# Altium integrated library Actel ProASIC PLUS.IntLib: 242 symbols (part 7 of 36)
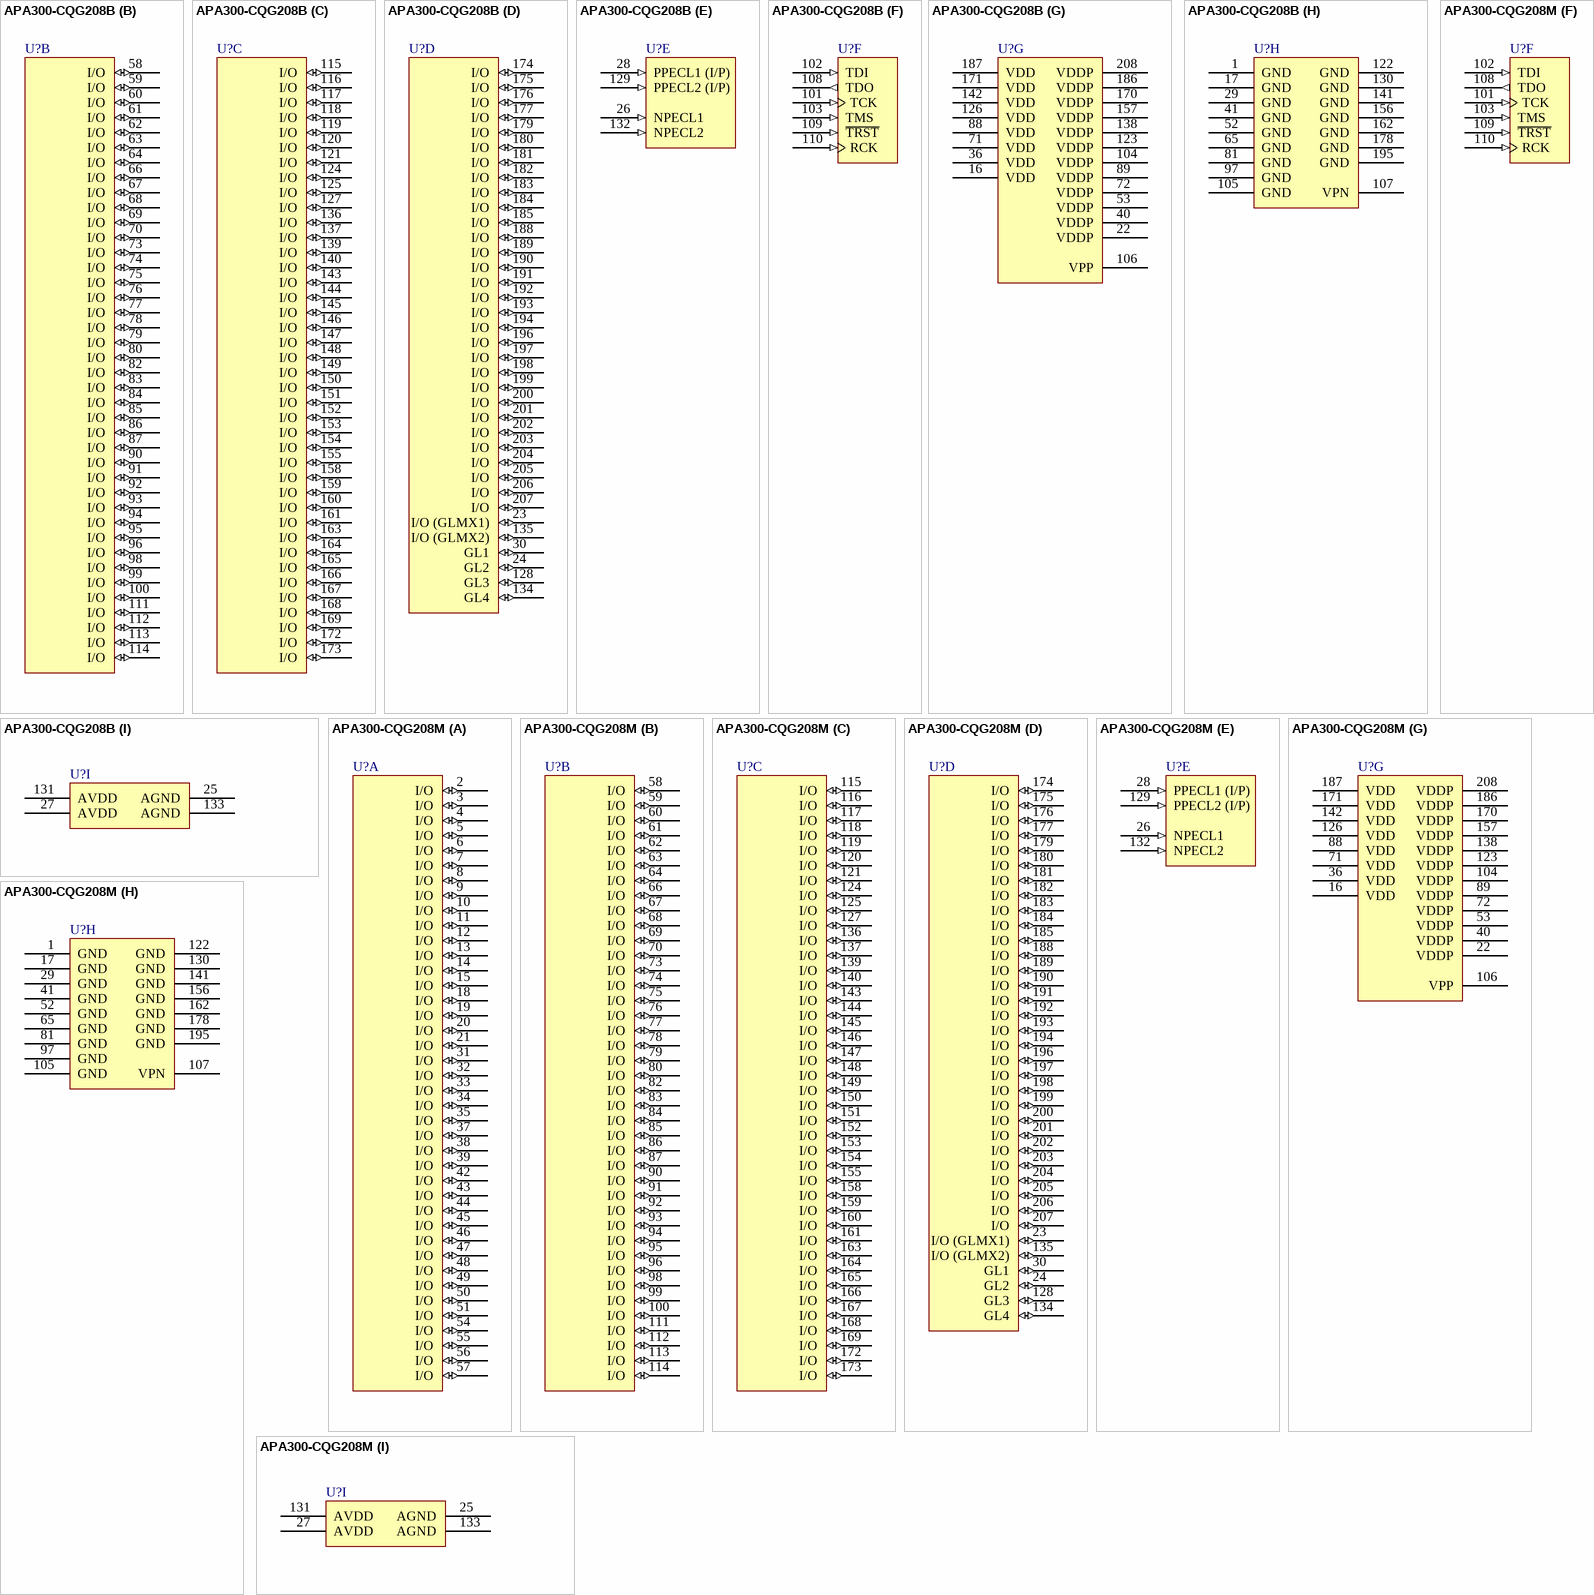
[diagram p203: symbols APA300-CQG208B to APA300-CQG208M]

## APA300-CQG208M
designator U?
ProASICPlus APA300 Flash FPGA, 158 User IOs, 208-Pin CQFP, Speed Grade Standard, Military Grade, Pb-Free; Published: 16-Dec-2005; LatestRevisionDate: 26-Feb-2010; LatestRevisionNote: Updated to datasheet version 5.9 Jan-2010.; DatasheetVersion: v5.9, Jan-2010; PackageVersion: ver11.2, Nov-2009; PackageReference: CQ208; Publisher: Altium Limited; PackageDescription: 208-Pin Ceramic Quad Flat Pack (CQFP); ComponentLink1Description: ProASIC PLUS Datasheet; ComponentLink1URL: http://www.actel.com/documents/ProASICPLUS_DS.pdf; ComponentLink2Description: Package Mechanical Drawings; ComponentLink2URL: http://www.actel.com/documents/PckgMechDrwngs.pdf; ComponentLink3Description: ProASIC PLUS Documents; ComponentLink3URL: http://www.actel.com/products/proasicplus/docs.aspx; ComponentLink4Description: Actel.com Home; ComponentLink4URL: http://www.actel.com/
footprint CQ208_N (CQFP, 208-Leads, Body 29x29mm; Pitch 0.5mm, Gullwing Leadform, IPC Medium Density)
footprint CQ208_L (CQFP, 208-Leads, Body 29x29mm; Pitch 0.5mm, Gullwing Leadform, IPC High Density)
footprint CQ208_M (CQFP, 208-Leads, Body 29x29mm; Pitch 0.5mm, Gullwing Leadform, IPC Low Density)
part A pins: 2 I/O (io), 3 I/O (io), 4 I/O (io), 5 I/O (io), 6 I/O (io), 7 I/O (io), 8 I/O (io), 9 I/O (io), 10 I/O (io), 11 I/O (io), 12 I/O (io), 13 I/O (io), 14 I/O (io), 15 I/O (io), 18 I/O (io), 19 I/O (io), 20 I/O (io), 21 I/O (io), 31 I/O (io), 32 I/O (io), 33 I/O (io), 34 I/O (io), 35 I/O (io), 37 I/O (io), 38 I/O (io), 39 I/O (io), 42 I/O (io), 43 I/O (io), 44 I/O (io), 45 I/O (io), 46 I/O (io), 47 I/O (io), 48 I/O (io), 49 I/O (io), 50 I/O (io), 51 I/O (io), 54 I/O (io), 55 I/O (io), 56 I/O (io), 57 I/O (io)
part B pins: 58 I/O (io), 59 I/O (io), 60 I/O (io), 61 I/O (io), 62 I/O (io), 63 I/O (io), 64 I/O (io), 66 I/O (io), 67 I/O (io), 68 I/O (io), 69 I/O (io), 70 I/O (io), 73 I/O (io), 74 I/O (io), 75 I/O (io), 76 I/O (io), 77 I/O (io), 78 I/O (io), 79 I/O (io), 80 I/O (io), 82 I/O (io), 83 I/O (io), 84 I/O (io), 85 I/O (io), 86 I/O (io), 87 I/O (io), 90 I/O (io), 91 I/O (io), 92 I/O (io), 93 I/O (io), 94 I/O (io), 95 I/O (io), 96 I/O (io), 98 I/O (io), 99 I/O (io), 100 I/O (io), 111 I/O (io), 112 I/O (io), 113 I/O (io), 114 I/O (io)
part C pins: 115 I/O (io), 116 I/O (io), 117 I/O (io), 118 I/O (io), 119 I/O (io), 120 I/O (io), 121 I/O (io), 124 I/O (io), 125 I/O (io), 127 I/O (io), 136 I/O (io), 137 I/O (io), 139 I/O (io), 140 I/O (io), 143 I/O (io), 144 I/O (io), 145 I/O (io), 146 I/O (io), 147 I/O (io), 148 I/O (io), 149 I/O (io), 150 I/O (io), 151 I/O (io), 152 I/O (io), 153 I/O (io), 154 I/O (io), 155 I/O (io), 158 I/O (io), 159 I/O (io), 160 I/O (io), 161 I/O (io), 163 I/O (io), 164 I/O (io), 165 I/O (io), 166 I/O (io), 167 I/O (io), 168 I/O (io), 169 I/O (io), 172 I/O (io), 173 I/O (io)
part D pins: 23 I/O (GLMX1) (io), 24 GL2 (io), 30 GL1 (io), 128 GL3 (io), 134 GL4 (io), 135 I/O (GLMX2) (io), 174 I/O (io), 175 I/O (io), 176 I/O (io), 177 I/O (io), 179 I/O (io), 180 I/O (io), 181 I/O (io), 182 I/O (io), 183 I/O (io), 184 I/O (io), 185 I/O (io), 188 I/O (io), 189 I/O (io), 190 I/O (io), 191 I/O (io), 192 I/O (io), 193 I/O (io), 194 I/O (io), 196 I/O (io), 197 I/O (io), 198 I/O (io), 199 I/O (io), 200 I/O (io), 201 I/O (io), 202 I/O (io), 203 I/O (io), 204 I/O (io), 205 I/O (io), 206 I/O (io), 207 I/O (io)
part E pins: 26 NPECL1 (in), 28 PPECL1 (I/P) (in), 129 PPECL2 (I/P) (in), 132 NPECL2 (in)
part F pins: 101 TCK (in), 102 TDI (in), 103 TMS (in), 108 TDO (out), 109 ~{TRST} (in), 110 RCK (in)
part G pins: 16 VDD (power), 22 VDDP (power), 36 VDD (power), 40 VDDP (power), 53 VDDP (power), 71 VDD (power), 72 VDDP (power), 88 VDD (power), 89 VDDP (power), 104 VDDP (power), 106 VPP (power), 123 VDDP (power), 126 VDD (power), 138 VDDP (power), 142 VDD (power), 157 VDDP (power), 170 VDDP (power), 171 VDD (power), 186 VDDP (power), 187 VDD (power), 208 VDDP (power)
part H pins: 1 GND (power), 17 GND (power), 29 GND (power), 41 GND (power), 52 GND (power), 65 GND (power), 81 GND (power), 97 GND (power), 105 GND (power), 107 VPN (power), 122 GND (power), 130 GND (power), 141 GND (power), 156 GND (power), 162 GND (power), 178 GND (power), 195 GND (power)
part I pins: 25 AGND (power), 27 AVDD (power), 131 AVDD (power), 133 AGND (power)

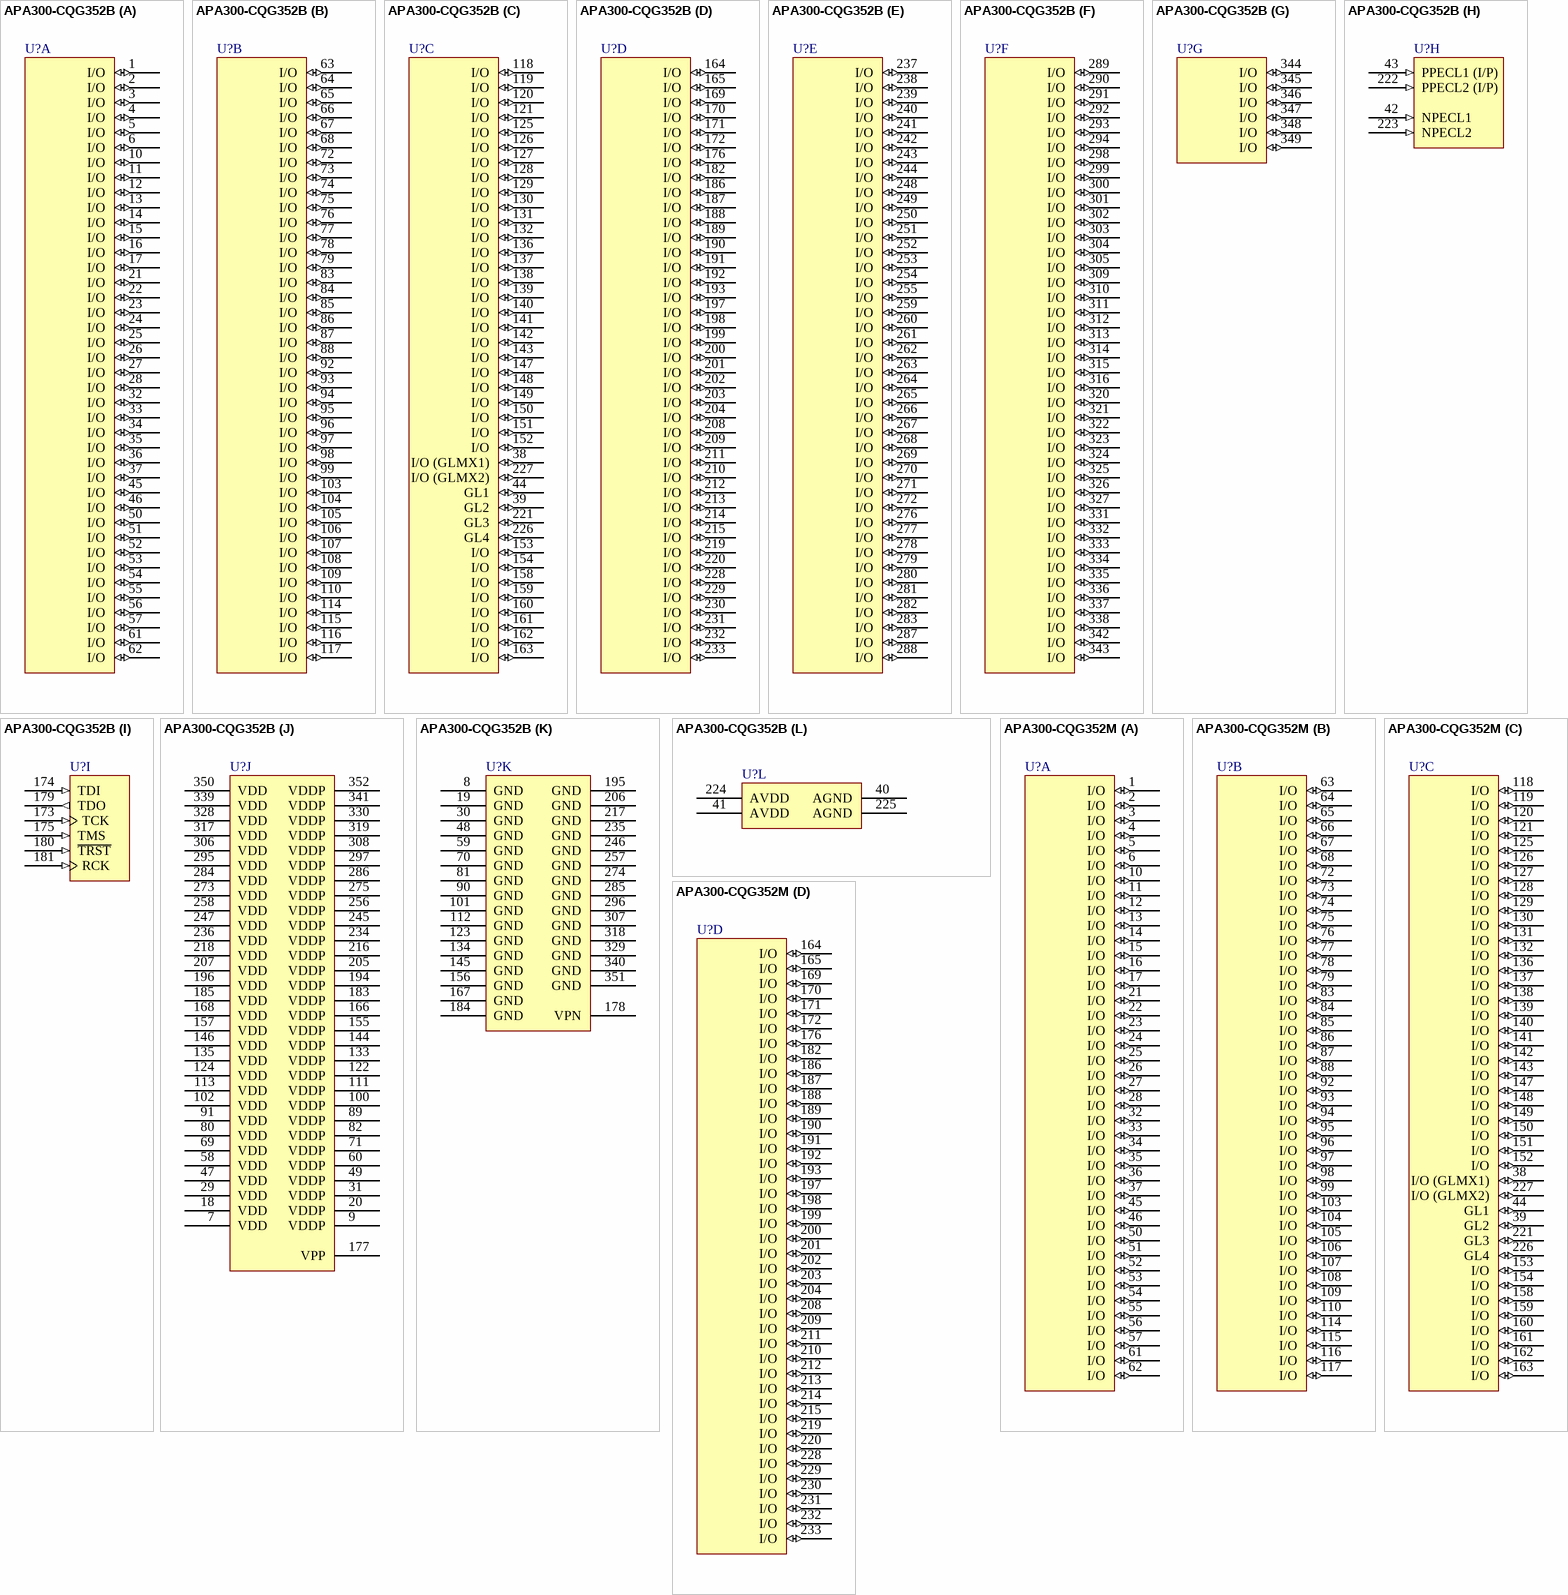
[diagram p40: symbols APA300-CQG352B to APA300-CQG352M]

## APA300-CQG352B
designator U?
ProASICPlus APA300 Flash FPGA, 248 User IOs, 352-Pin CQFP, Speed Grade Standard, Mil-Std 883 Class B, Pb-Free; Published: 2-Mar-2006; LatestRevisionDate: 26-Feb-2010; LatestRevisionNote: Updated to datasheet version 5.9 Jan-2010.; DatasheetVersion: v5.9, Jan-2010; PackageVersion: ver11.2, Nov-2009; PackageReference: CQ352; Publisher: Altium Limited; PackageDescription: 352-Pin Ceramic Quad Flat Pack (CQFP), Cavity Up without Heat Sink; Code_JEDEC: MO-134-AE; ComponentLink1Description: ProASIC PLUS Datasheet; ComponentLink1URL: http://www.actel.com/documents/ProASICPLUS_DS.pdf; ComponentLink2Description: Package Mechanical Drawings; ComponentLink2URL: http://www.actel.com/documents/PckgMechDrwngs.pdf; ComponentLink3Description: ProASIC PLUS Documents; ComponentLink3URL: http://www.actel.com/products/proasicplus/docs.aspx; ComponentLink4Description: Actel.com Home; ComponentLink4URL: http://www.actel.com/
footprint CQ352_N (CQFP, 352-Leads, Body 48x48mm; Pitch 0.5mm, Gullwing Leadform, IPC Medium Density)
footprint CQ352_L (CQFP, 352-Leads, Body 48x48mm; Pitch 0.5mm, Gullwing Leadform, IPC High Density)
footprint CQ352_M (CQFP, 352-Leads, Body 48x48mm; Pitch 0.5mm, Gullwing Leadform, IPC Low Density)
part A pins: 1 I/O (io), 2 I/O (io), 3 I/O (io), 4 I/O (io), 5 I/O (io), 6 I/O (io), 10 I/O (io), 11 I/O (io), 12 I/O (io), 13 I/O (io), 14 I/O (io), 15 I/O (io), 16 I/O (io), 17 I/O (io), 21 I/O (io), 22 I/O (io), 23 I/O (io), 24 I/O (io), 25 I/O (io), 26 I/O (io), 27 I/O (io), 28 I/O (io), 32 I/O (io), 33 I/O (io), 34 I/O (io), 35 I/O (io), 36 I/O (io), 37 I/O (io), 45 I/O (io), 46 I/O (io), 50 I/O (io), 51 I/O (io), 52 I/O (io), 53 I/O (io), 54 I/O (io), 55 I/O (io), 56 I/O (io), 57 I/O (io), 61 I/O (io), 62 I/O (io)
part B pins: 63 I/O (io), 64 I/O (io), 65 I/O (io), 66 I/O (io), 67 I/O (io), 68 I/O (io), 72 I/O (io), 73 I/O (io), 74 I/O (io), 75 I/O (io), 76 I/O (io), 77 I/O (io), 78 I/O (io), 79 I/O (io), 83 I/O (io), 84 I/O (io), 85 I/O (io), 86 I/O (io), 87 I/O (io), 88 I/O (io), 92 I/O (io), 93 I/O (io), 94 I/O (io), 95 I/O (io), 96 I/O (io), 97 I/O (io), 98 I/O (io), 99 I/O (io), 103 I/O (io), 104 I/O (io), 105 I/O (io), 106 I/O (io), 107 I/O (io), 108 I/O (io), 109 I/O (io), 110 I/O (io), 114 I/O (io), 115 I/O (io), 116 I/O (io), 117 I/O (io)
part C pins: 38 I/O (GLMX1) (io), 39 GL2 (io), 44 GL1 (io), 118 I/O (io), 119 I/O (io), 120 I/O (io), 121 I/O (io), 125 I/O (io), 126 I/O (io), 127 I/O (io), 128 I/O (io), 129 I/O (io), 130 I/O (io), 131 I/O (io), 132 I/O (io), 136 I/O (io), 137 I/O (io), 138 I/O (io), 139 I/O (io), 140 I/O (io), 141 I/O (io), 142 I/O (io), 143 I/O (io), 147 I/O (io), 148 I/O (io), 149 I/O (io), 150 I/O (io), 151 I/O (io), 152 I/O (io), 153 I/O (io), 154 I/O (io), 158 I/O (io), 159 I/O (io), 160 I/O (io), 161 I/O (io), 162 I/O (io), 163 I/O (io), 221 GL3 (io), 226 GL4 (io), 227 I/O (GLMX2) (io)
part D pins: 164 I/O (io), 165 I/O (io), 169 I/O (io), 170 I/O (io), 171 I/O (io), 172 I/O (io), 176 I/O (io), 182 I/O (io), 186 I/O (io), 187 I/O (io), 188 I/O (io), 189 I/O (io), 190 I/O (io), 191 I/O (io), 192 I/O (io), 193 I/O (io), 197 I/O (io), 198 I/O (io), 199 I/O (io), 200 I/O (io), 201 I/O (io), 202 I/O (io), 203 I/O (io), 204 I/O (io), 208 I/O (io), 209 I/O (io), 210 I/O (io), 211 I/O (io), 212 I/O (io), 213 I/O (io), 214 I/O (io), 215 I/O (io), 219 I/O (io), 220 I/O (io), 228 I/O (io), 229 I/O (io), 230 I/O (io), 231 I/O (io), 232 I/O (io), 233 I/O (io)
part E pins: 237 I/O (io), 238 I/O (io), 239 I/O (io), 240 I/O (io), 241 I/O (io), 242 I/O (io), 243 I/O (io), 244 I/O (io), 248 I/O (io), 249 I/O (io), 250 I/O (io), 251 I/O (io), 252 I/O (io), 253 I/O (io), 254 I/O (io), 255 I/O (io), 259 I/O (io), 260 I/O (io), 261 I/O (io), 262 I/O (io), 263 I/O (io), 264 I/O (io), 265 I/O (io), 266 I/O (io), 267 I/O (io), 268 I/O (io), 269 I/O (io), 270 I/O (io), 271 I/O (io), 272 I/O (io), 276 I/O (io), 277 I/O (io), 278 I/O (io), 279 I/O (io), 280 I/O (io), 281 I/O (io), 282 I/O (io), 283 I/O (io), 287 I/O (io), 288 I/O (io)
part F pins: 289 I/O (io), 290 I/O (io), 291 I/O (io), 292 I/O (io), 293 I/O (io), 294 I/O (io), 298 I/O (io), 299 I/O (io), 300 I/O (io), 301 I/O (io), 302 I/O (io), 303 I/O (io), 304 I/O (io), 305 I/O (io), 309 I/O (io), 310 I/O (io), 311 I/O (io), 312 I/O (io), 313 I/O (io), 314 I/O (io), 315 I/O (io), 316 I/O (io), 320 I/O (io), 321 I/O (io), 322 I/O (io), 323 I/O (io), 324 I/O (io), 325 I/O (io), 326 I/O (io), 327 I/O (io), 331 I/O (io), 332 I/O (io), 333 I/O (io), 334 I/O (io), 335 I/O (io), 336 I/O (io), 337 I/O (io), 338 I/O (io), 342 I/O (io), 343 I/O (io)
part G pins: 344 I/O (io), 345 I/O (io), 346 I/O (io), 347 I/O (io), 348 I/O (io), 349 I/O (io)
part H pins: 42 NPECL1 (in), 43 PPECL1 (I/P) (in), 222 PPECL2 (I/P) (in), 223 NPECL2 (in)
part I pins: 173 TCK (in), 174 TDI (in), 175 TMS (in), 179 TDO (out), 180 ~{TRST} (in), 181 RCK (in)
part J pins: 7 VDD (power), 9 VDDP (power), 18 VDD (power), 20 VDDP (power), 29 VDD (power), 31 VDDP (power), 47 VDD (power), 49 VDDP (power), 58 VDD (power), 60 VDDP (power), 69 VDD (power), 71 VDDP (power), 80 VDD (power), 82 VDDP (power), 89 VDDP (power), 91 VDD (power), 100 VDDP (power), 102 VDD (power), 111 VDDP (power), 113 VDD (power), 122 VDDP (power), 124 VDD (power), 133 VDDP (power), 135 VDD (power), 144 VDDP (power), 146 VDD (power), 155 VDDP (power), 157 VDD (power), 166 VDDP (power), 168 VDD (power), 177 VPP (power), 183 VDDP (power), 185 VDD (power), 194 VDDP (power), 196 VDD (power), 205 VDDP (power), 207 VDD (power), 216 VDDP (power), 218 VDD (power), 234 VDDP (power), 236 VDD (power), 245 VDDP (power), 247 VDD (power), 256 VDDP (power), 258 VDD (power), 273 VDD (power), 275 VDDP (power), 284 VDD (power), 286 VDDP (power), 295 VDD (power), 297 VDDP (power), 306 VDD (power), 308 VDDP (power), 317 VDD (power), 319 VDDP (power), 328 VDD (power), 330 VDDP (power), 339 VDD (power), 341 VDDP (power), 350 VDD (power), 352 VDDP (power)
part K pins: 8 GND (power), 19 GND (power), 30 GND (power), 48 GND (power), 59 GND (power), 70 GND (power), 81 GND (power), 90 GND (power), 101 GND (power), 112 GND (power), 123 GND (power), 134 GND (power), 145 GND (power), 156 GND (power), 167 GND (power), 178 VPN (power), 184 GND (power), 195 GND (power), 206 GND (power), 217 GND (power), 235 GND (power), 246 GND (power), 257 GND (power), 274 GND (power), 285 GND (power), 296 GND (power), 307 GND (power), 318 GND (power), 329 GND (power), 340 GND (power), 351 GND (power)
part L pins: 40 AGND (power), 41 AVDD (power), 224 AVDD (power), 225 AGND (power)

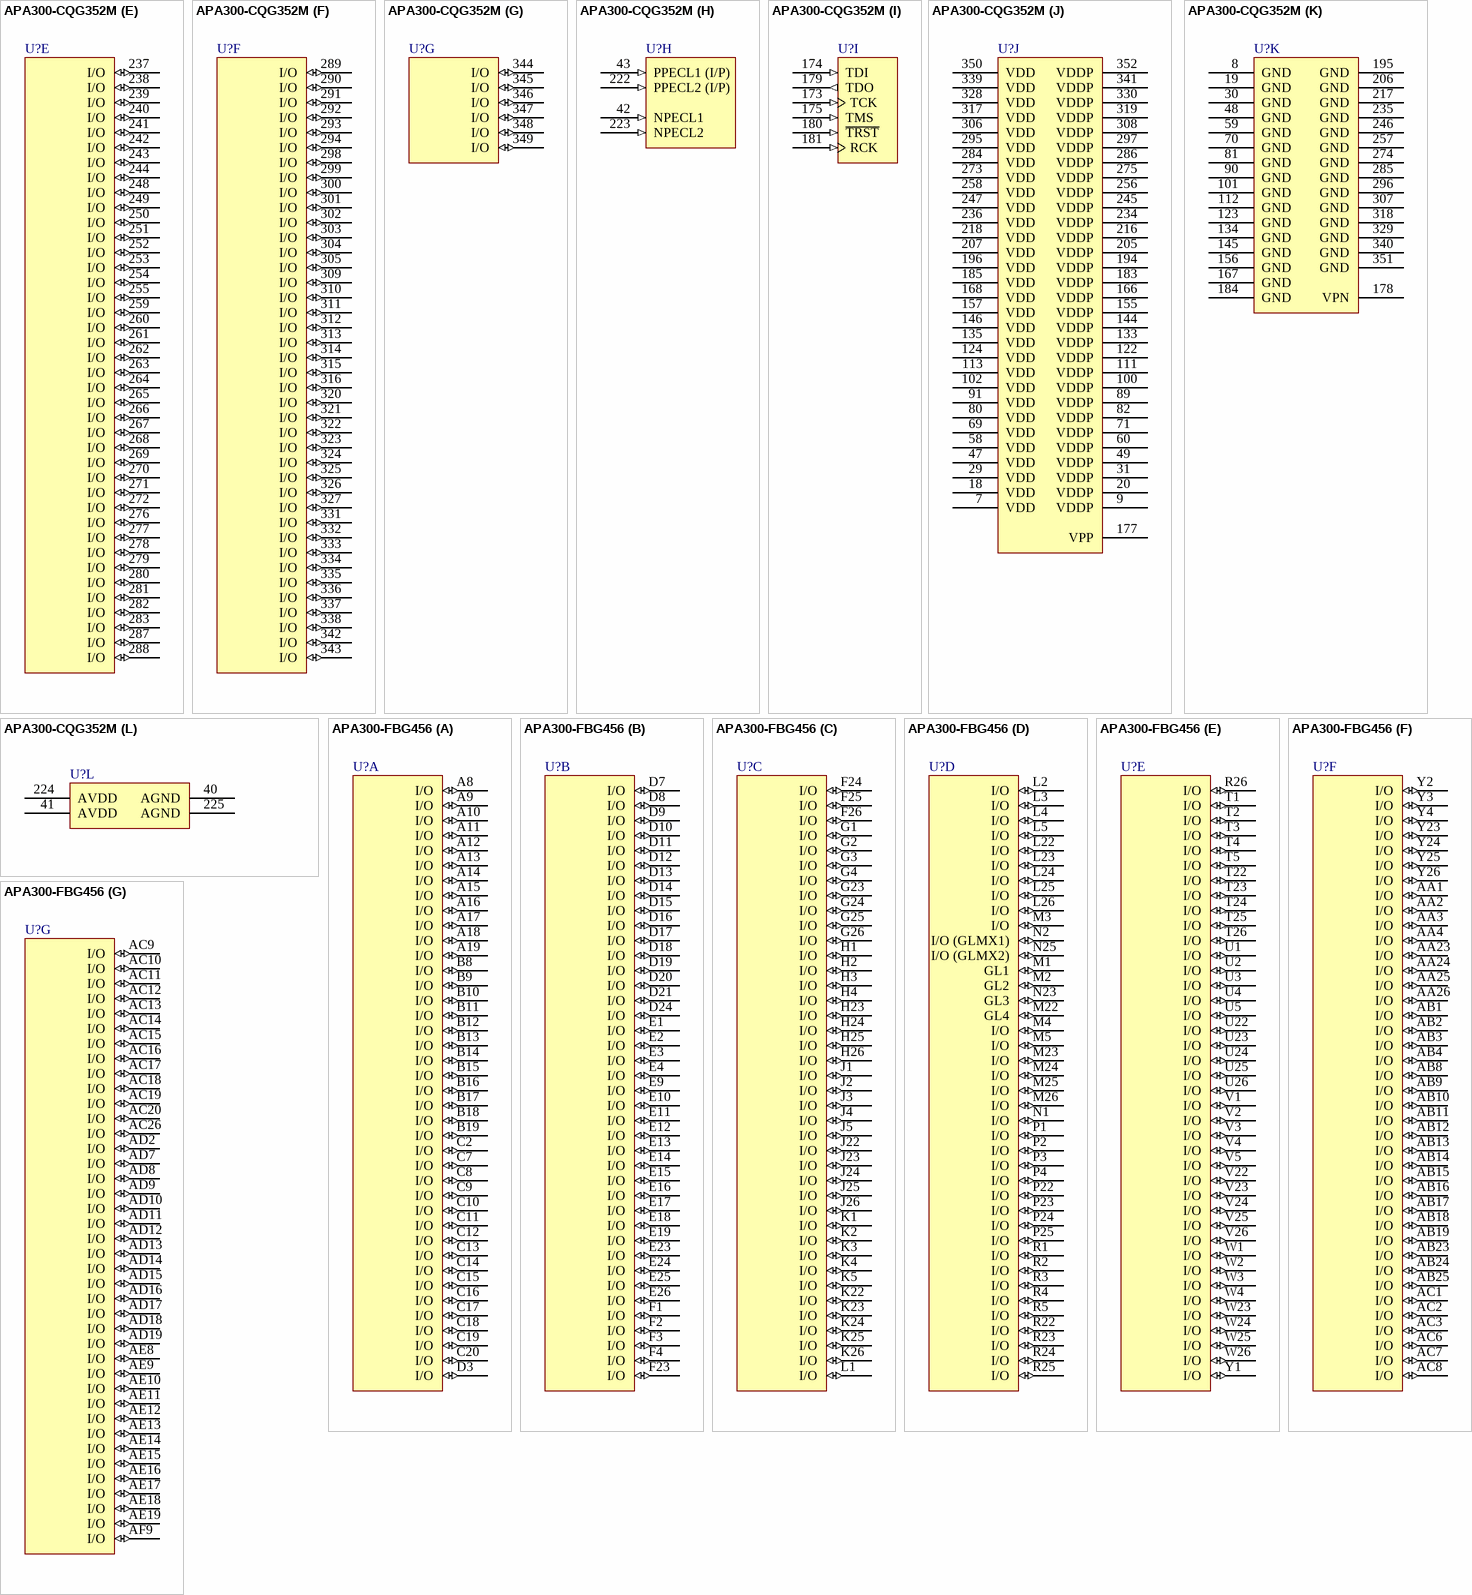
[diagram p41: symbols APA300-CQG352M to APA300-FBG456]

## APA300-CQG352M
designator U?
ProASICPlus APA300 Flash FPGA, 248 User IOs, 352-Pin CQFP, Speed Grade Standard, Military Grade, Pb-Free; Published: 16-Dec-2005; LatestRevisionDate: 26-Feb-2010; LatestRevisionNote: Updated to datasheet version 5.9 Jan-2010.; DatasheetVersion: v5.9, Jan-2010; PackageVersion: ver11.2, Nov-2009; PackageReference: CQ352; Publisher: Altium Limited; PackageDescription: 352-Pin Ceramic Quad Flat Pack (CQFP), Cavity Up without Heat Sink; Code_JEDEC: MO-134-AE; ComponentLink1Description: ProASIC PLUS Datasheet; ComponentLink1URL: http://www.actel.com/documents/ProASICPLUS_DS.pdf; ComponentLink2Description: Package Mechanical Drawings; ComponentLink2URL: http://www.actel.com/documents/PckgMechDrwngs.pdf; ComponentLink3Description: ProASIC PLUS Documents; ComponentLink3URL: http://www.actel.com/products/proasicplus/docs.aspx; ComponentLink4Description: Actel.com Home; ComponentLink4URL: http://www.actel.com/
footprint CQ352_N (CQFP, 352-Leads, Body 48x48mm; Pitch 0.5mm, Gullwing Leadform, IPC Medium Density)
footprint CQ352_L (CQFP, 352-Leads, Body 48x48mm; Pitch 0.5mm, Gullwing Leadform, IPC High Density)
footprint CQ352_M (CQFP, 352-Leads, Body 48x48mm; Pitch 0.5mm, Gullwing Leadform, IPC Low Density)
part A pins: 1 I/O (io), 2 I/O (io), 3 I/O (io), 4 I/O (io), 5 I/O (io), 6 I/O (io), 10 I/O (io), 11 I/O (io), 12 I/O (io), 13 I/O (io), 14 I/O (io), 15 I/O (io), 16 I/O (io), 17 I/O (io), 21 I/O (io), 22 I/O (io), 23 I/O (io), 24 I/O (io), 25 I/O (io), 26 I/O (io), 27 I/O (io), 28 I/O (io), 32 I/O (io), 33 I/O (io), 34 I/O (io), 35 I/O (io), 36 I/O (io), 37 I/O (io), 45 I/O (io), 46 I/O (io), 50 I/O (io), 51 I/O (io), 52 I/O (io), 53 I/O (io), 54 I/O (io), 55 I/O (io), 56 I/O (io), 57 I/O (io), 61 I/O (io), 62 I/O (io)
part B pins: 63 I/O (io), 64 I/O (io), 65 I/O (io), 66 I/O (io), 67 I/O (io), 68 I/O (io), 72 I/O (io), 73 I/O (io), 74 I/O (io), 75 I/O (io), 76 I/O (io), 77 I/O (io), 78 I/O (io), 79 I/O (io), 83 I/O (io), 84 I/O (io), 85 I/O (io), 86 I/O (io), 87 I/O (io), 88 I/O (io), 92 I/O (io), 93 I/O (io), 94 I/O (io), 95 I/O (io), 96 I/O (io), 97 I/O (io), 98 I/O (io), 99 I/O (io), 103 I/O (io), 104 I/O (io), 105 I/O (io), 106 I/O (io), 107 I/O (io), 108 I/O (io), 109 I/O (io), 110 I/O (io), 114 I/O (io), 115 I/O (io), 116 I/O (io), 117 I/O (io)
part C pins: 38 I/O (GLMX1) (io), 39 GL2 (io), 44 GL1 (io), 118 I/O (io), 119 I/O (io), 120 I/O (io), 121 I/O (io), 125 I/O (io), 126 I/O (io), 127 I/O (io), 128 I/O (io), 129 I/O (io), 130 I/O (io), 131 I/O (io), 132 I/O (io), 136 I/O (io), 137 I/O (io), 138 I/O (io), 139 I/O (io), 140 I/O (io), 141 I/O (io), 142 I/O (io), 143 I/O (io), 147 I/O (io), 148 I/O (io), 149 I/O (io), 150 I/O (io), 151 I/O (io), 152 I/O (io), 153 I/O (io), 154 I/O (io), 158 I/O (io), 159 I/O (io), 160 I/O (io), 161 I/O (io), 162 I/O (io), 163 I/O (io), 221 GL3 (io), 226 GL4 (io), 227 I/O (GLMX2) (io)
part D pins: 164 I/O (io), 165 I/O (io), 169 I/O (io), 170 I/O (io), 171 I/O (io), 172 I/O (io), 176 I/O (io), 182 I/O (io), 186 I/O (io), 187 I/O (io), 188 I/O (io), 189 I/O (io), 190 I/O (io), 191 I/O (io), 192 I/O (io), 193 I/O (io), 197 I/O (io), 198 I/O (io), 199 I/O (io), 200 I/O (io), 201 I/O (io), 202 I/O (io), 203 I/O (io), 204 I/O (io), 208 I/O (io), 209 I/O (io), 210 I/O (io), 211 I/O (io), 212 I/O (io), 213 I/O (io), 214 I/O (io), 215 I/O (io), 219 I/O (io), 220 I/O (io), 228 I/O (io), 229 I/O (io), 230 I/O (io), 231 I/O (io), 232 I/O (io), 233 I/O (io)
part E pins: 237 I/O (io), 238 I/O (io), 239 I/O (io), 240 I/O (io), 241 I/O (io), 242 I/O (io), 243 I/O (io), 244 I/O (io), 248 I/O (io), 249 I/O (io), 250 I/O (io), 251 I/O (io), 252 I/O (io), 253 I/O (io), 254 I/O (io), 255 I/O (io), 259 I/O (io), 260 I/O (io), 261 I/O (io), 262 I/O (io), 263 I/O (io), 264 I/O (io), 265 I/O (io), 266 I/O (io), 267 I/O (io), 268 I/O (io), 269 I/O (io), 270 I/O (io), 271 I/O (io), 272 I/O (io), 276 I/O (io), 277 I/O (io), 278 I/O (io), 279 I/O (io), 280 I/O (io), 281 I/O (io), 282 I/O (io), 283 I/O (io), 287 I/O (io), 288 I/O (io)
part F pins: 289 I/O (io), 290 I/O (io), 291 I/O (io), 292 I/O (io), 293 I/O (io), 294 I/O (io), 298 I/O (io), 299 I/O (io), 300 I/O (io), 301 I/O (io), 302 I/O (io), 303 I/O (io), 304 I/O (io), 305 I/O (io), 309 I/O (io), 310 I/O (io), 311 I/O (io), 312 I/O (io), 313 I/O (io), 314 I/O (io), 315 I/O (io), 316 I/O (io), 320 I/O (io), 321 I/O (io), 322 I/O (io), 323 I/O (io), 324 I/O (io), 325 I/O (io), 326 I/O (io), 327 I/O (io), 331 I/O (io), 332 I/O (io), 333 I/O (io), 334 I/O (io), 335 I/O (io), 336 I/O (io), 337 I/O (io), 338 I/O (io), 342 I/O (io), 343 I/O (io)
part G pins: 344 I/O (io), 345 I/O (io), 346 I/O (io), 347 I/O (io), 348 I/O (io), 349 I/O (io)
part H pins: 42 NPECL1 (in), 43 PPECL1 (I/P) (in), 222 PPECL2 (I/P) (in), 223 NPECL2 (in)
part I pins: 173 TCK (in), 174 TDI (in), 175 TMS (in), 179 TDO (out), 180 ~{TRST} (in), 181 RCK (in)
part J pins: 7 VDD (power), 9 VDDP (power), 18 VDD (power), 20 VDDP (power), 29 VDD (power), 31 VDDP (power), 47 VDD (power), 49 VDDP (power), 58 VDD (power), 60 VDDP (power), 69 VDD (power), 71 VDDP (power), 80 VDD (power), 82 VDDP (power), 89 VDDP (power), 91 VDD (power), 100 VDDP (power), 102 VDD (power), 111 VDDP (power), 113 VDD (power), 122 VDDP (power), 124 VDD (power), 133 VDDP (power), 135 VDD (power), 144 VDDP (power), 146 VDD (power), 155 VDDP (power), 157 VDD (power), 166 VDDP (power), 168 VDD (power), 177 VPP (power), 183 VDDP (power), 185 VDD (power), 194 VDDP (power), 196 VDD (power), 205 VDDP (power), 207 VDD (power), 216 VDDP (power), 218 VDD (power), 234 VDDP (power), 236 VDD (power), 245 VDDP (power), 247 VDD (power), 256 VDDP (power), 258 VDD (power), 273 VDD (power), 275 VDDP (power), 284 VDD (power), 286 VDDP (power), 295 VDD (power), 297 VDDP (power), 306 VDD (power), 308 VDDP (power), 317 VDD (power), 319 VDDP (power), 328 VDD (power), 330 VDDP (power), 339 VDD (power), 341 VDDP (power), 350 VDD (power), 352 VDDP (power)
part K pins: 8 GND (power), 19 GND (power), 30 GND (power), 48 GND (power), 59 GND (power), 70 GND (power), 81 GND (power), 90 GND (power), 101 GND (power), 112 GND (power), 123 GND (power), 134 GND (power), 145 GND (power), 156 GND (power), 167 GND (power), 178 VPN (power), 184 GND (power), 195 GND (power), 206 GND (power), 217 GND (power), 235 GND (power), 246 GND (power), 257 GND (power), 274 GND (power), 285 GND (power), 296 GND (power), 307 GND (power), 318 GND (power), 329 GND (power), 340 GND (power), 351 GND (power)
part L pins: 40 AGND (power), 41 AVDD (power), 224 AVDD (power), 225 AGND (power)

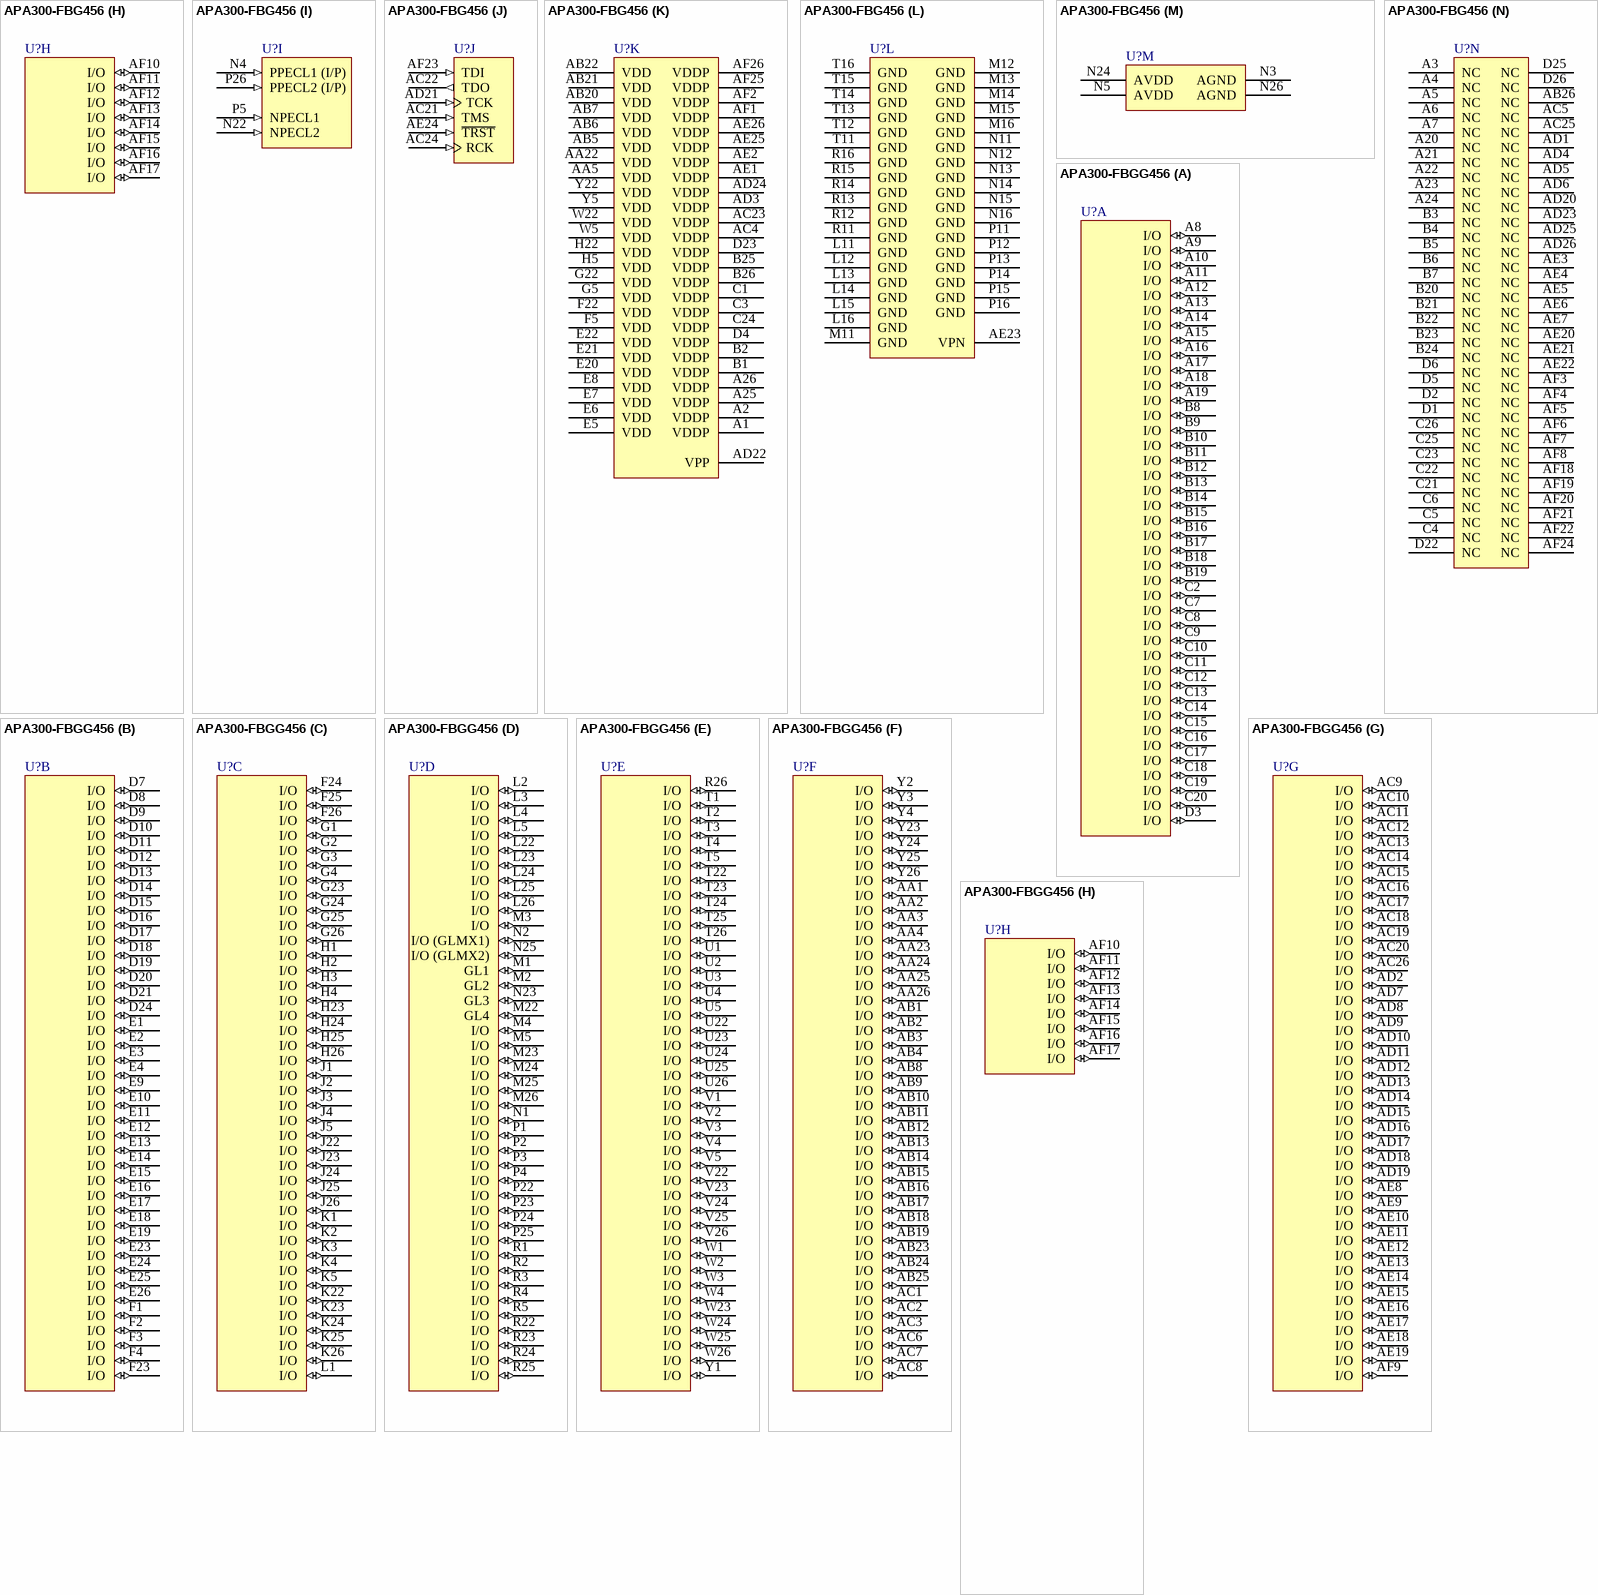
[diagram p42: symbols APA300-FBG456 to APA300-FBGG456]

## APA300-FBG456
designator U?
ProASICPlus APA300 Flash FPGA, 290 User IOs, 456-Pin PBGA, Speed Grade F, Commercial Grade; ComponentAvailability: Speed Grade F no longer suported, removed from v5.9, Jan-2010 datasheet.; Published: 21-May-2003; LatestRevisionDate: 11-Dec-2009; LatestRevisionNote: Updated to datasheet version 5.8 Jun-2009.; DatasheetVersion: v5.8, Jun-2009; PackageVersion: ver11.2, Nov-2009; PackageReference: BG456; Publisher: Altium Limited; PackageDescription: 456-Ball Plastic Ball Grid Array (BG456); Code_JEDEC: MS-034-BAR-2; ComponentLink1Description: ProASIC PLUS Datasheet; ComponentLink1URL: http://www.actel.com/documents/ProASICPLUS_DS.pdf; ComponentLink2Description: Package Mechanical Drawings; ComponentLink2URL: http://www.actel.com/documents/PckgMechDrwngs.pdf; ComponentLink3Description: ProASIC PLUS Documents; ComponentLink3URL: http://www.actel.com/products/proasicplus/docs.aspx; ComponentLink4Description: Actel.com Home; ComponentLink4URL: http://www.actel.com/
footprint BG456 (BGA, 456-Leads, Body 35x35mm, Pitch 1.27mm)
part A pins: A8 I/O (io), A9 I/O (io), A10 I/O (io), A11 I/O (io), A12 I/O (io), A13 I/O (io), A14 I/O (io), A15 I/O (io), A16 I/O (io), A17 I/O (io), A18 I/O (io), A19 I/O (io), B8 I/O (io), B9 I/O (io), B10 I/O (io), B11 I/O (io), B12 I/O (io), B13 I/O (io), B14 I/O (io), B15 I/O (io), B16 I/O (io), B17 I/O (io), B18 I/O (io), B19 I/O (io), C2 I/O (io), C7 I/O (io), C8 I/O (io), C9 I/O (io), C10 I/O (io), C11 I/O (io), C12 I/O (io), C13 I/O (io), C14 I/O (io), C15 I/O (io), C16 I/O (io), C17 I/O (io), C18 I/O (io), C19 I/O (io), C20 I/O (io), D3 I/O (io)
part B pins: D7 I/O (io), D8 I/O (io), D9 I/O (io), D10 I/O (io), D11 I/O (io), D12 I/O (io), D13 I/O (io), D14 I/O (io), D15 I/O (io), D16 I/O (io), D17 I/O (io), D18 I/O (io), D19 I/O (io), D20 I/O (io), D21 I/O (io), D24 I/O (io), E1 I/O (io), E2 I/O (io), E3 I/O (io), E4 I/O (io), E9 I/O (io), E10 I/O (io), E11 I/O (io), E12 I/O (io), E13 I/O (io), E14 I/O (io), E15 I/O (io), E16 I/O (io), E17 I/O (io), E18 I/O (io), E19 I/O (io), E23 I/O (io), E24 I/O (io), E25 I/O (io), E26 I/O (io), F1 I/O (io), F2 I/O (io), F3 I/O (io), F4 I/O (io), F23 I/O (io)
part C pins: F24 I/O (io), F25 I/O (io), F26 I/O (io), G1 I/O (io), G2 I/O (io), G3 I/O (io), G4 I/O (io), G23 I/O (io), G24 I/O (io), G25 I/O (io), G26 I/O (io), H1 I/O (io), H2 I/O (io), H3 I/O (io), H4 I/O (io), H23 I/O (io), H24 I/O (io), H25 I/O (io), H26 I/O (io), J1 I/O (io), J2 I/O (io), J3 I/O (io), J4 I/O (io), J5 I/O (io), J22 I/O (io), J23 I/O (io), J24 I/O (io), J25 I/O (io), J26 I/O (io), K1 I/O (io), K2 I/O (io), K3 I/O (io), K4 I/O (io), K5 I/O (io), K22 I/O (io), K23 I/O (io), K24 I/O (io), K25 I/O (io), K26 I/O (io), L1 I/O (io)
part D pins: L2 I/O (io), L3 I/O (io), L4 I/O (io), L5 I/O (io), L22 I/O (io), L23 I/O (io), L24 I/O (io), L25 I/O (io), L26 I/O (io), M1 GL1 (io), M2 GL2 (io), M3 I/O (io), M4 I/O (io), M5 I/O (io), M22 GL4 (io), M23 I/O (io), M24 I/O (io), M25 I/O (io), M26 I/O (io), N1 I/O (io), N2 I/O (GLMX1) (io), N23 GL3 (io), N25 I/O (GLMX2) (io), P1 I/O (io), P2 I/O (io), P3 I/O (io), P4 I/O (io), P22 I/O (io), P23 I/O (io), P24 I/O (io), P25 I/O (io), R1 I/O (io), R2 I/O (io), R3 I/O (io), R4 I/O (io), R5 I/O (io), R22 I/O (io), R23 I/O (io), R24 I/O (io), R25 I/O (io)
part E pins: R26 I/O (io), T1 I/O (io), T2 I/O (io), T3 I/O (io), T4 I/O (io), T5 I/O (io), T22 I/O (io), T23 I/O (io), T24 I/O (io), T25 I/O (io), T26 I/O (io), U1 I/O (io), U2 I/O (io), U3 I/O (io), U4 I/O (io), U5 I/O (io), U22 I/O (io), U23 I/O (io), U24 I/O (io), U25 I/O (io), U26 I/O (io), V1 I/O (io), V2 I/O (io), V3 I/O (io), V4 I/O (io), V5 I/O (io), V22 I/O (io), V23 I/O (io), V24 I/O (io), V25 I/O (io), V26 I/O (io), W1 I/O (io), W2 I/O (io), W3 I/O (io), W4 I/O (io), W23 I/O (io), W24 I/O (io), W25 I/O (io), W26 I/O (io), Y1 I/O (io)
part F pins: AA1 I/O (io), AA2 I/O (io), AA3 I/O (io), AA4 I/O (io), AA23 I/O (io), AA24 I/O (io), AA25 I/O (io), AA26 I/O (io), AB1 I/O (io), AB2 I/O (io), AB3 I/O (io), AB4 I/O (io), AB8 I/O (io), AB9 I/O (io), AB10 I/O (io), AB11 I/O (io), AB12 I/O (io), AB13 I/O (io), AB14 I/O (io), AB15 I/O (io), AB16 I/O (io), AB17 I/O (io), AB18 I/O (io), AB19 I/O (io), AB23 I/O (io), AB24 I/O (io), AB25 I/O (io), AC1 I/O (io), AC2 I/O (io), AC3 I/O (io), AC6 I/O (io), AC7 I/O (io), AC8 I/O (io), Y2 I/O (io), Y3 I/O (io), Y4 I/O (io), Y23 I/O (io), Y24 I/O (io), Y25 I/O (io), Y26 I/O (io)
part G pins: AC9 I/O (io), AC10 I/O (io), AC11 I/O (io), AC12 I/O (io), AC13 I/O (io), AC14 I/O (io), AC15 I/O (io), AC16 I/O (io), AC17 I/O (io), AC18 I/O (io), AC19 I/O (io), AC20 I/O (io), AC26 I/O (io), AD2 I/O (io), AD7 I/O (io), AD8 I/O (io), AD9 I/O (io), AD10 I/O (io), AD11 I/O (io), AD12 I/O (io), AD13 I/O (io), AD14 I/O (io), AD15 I/O (io), AD16 I/O (io), AD17 I/O (io), AD18 I/O (io), AD19 I/O (io), AE8 I/O (io), AE9 I/O (io), AE10 I/O (io), AE11 I/O (io), AE12 I/O (io), AE13 I/O (io), AE14 I/O (io), AE15 I/O (io), AE16 I/O (io), AE17 I/O (io), AE18 I/O (io), AE19 I/O (io), AF9 I/O (io)
part H pins: AF10 I/O (io), AF11 I/O (io), AF12 I/O (io), AF13 I/O (io), AF14 I/O (io), AF15 I/O (io), AF16 I/O (io), AF17 I/O (io)
part I pins: N4 PPECL1 (I/P) (in), N22 NPECL2 (in), P5 NPECL1 (in), P26 PPECL2 (I/P) (in)
part J pins: AC21 TMS (in), AC22 TDO (out), AC24 RCK (in), AD21 TCK (in), AE24 ~{TRST} (in), AF23 TDI (in)
part K pins: A1 VDDP (power), A2 VDDP (power), A25 VDDP (power), A26 VDDP (power), AA5 VDD (power), AA22 VDD (power), AB5 VDD (power), AB6 VDD (power), AB7 VDD (power), AB20 VDD (power), AB21 VDD (power), AB22 VDD (power), AC4 VDDP (power), AC23 VDDP (power), AD3 VDDP (power), AD22 VPP (power), AD24 VDDP (power), AE1 VDDP (power), AE2 VDDP (power), AE25 VDDP (power), AE26 VDDP (power), AF1 VDDP (power), AF2 VDDP (power), AF25 VDDP (power), AF26 VDDP (power), B1 VDDP (power), B2 VDDP (power), B25 VDDP (power), B26 VDDP (power), C1 VDDP (power), C3 VDDP (power), C24 VDDP (power), D4 VDDP (power), D23 VDDP (power), E5 VDD (power), E6 VDD (power), E7 VDD (power), E8 VDD (power), E20 VDD (power), E21 VDD (power), E22 VDD (power), F5 VDD (power), F22 VDD (power), G5 VDD (power), G22 VDD (power), H5 VDD (power), H22 VDD (power), W5 VDD (power), W22 VDD (power), Y5 VDD (power), Y22 VDD (power)
part L pins: AE23 VPN (power), L11 GND (power), L12 GND (power), L13 GND (power), L14 GND (power), L15 GND (power), L16 GND (power), M11 GND (power), M12 GND (power), M13 GND (power), M14 GND (power), M15 GND (power), M16 GND (power), N11 GND (power), N12 GND (power), N13 GND (power), N14 GND (power), N15 GND (power), N16 GND (power), P11 GND (power), P12 GND (power), P13 GND (power), P14 GND (power), P15 GND (power), P16 GND (power), R11 GND (power), R12 GND (power), R13 GND (power), R14 GND (power), R15 GND (power), R16 GND (power), T11 GND (power), T12 GND (power), T13 GND (power), T14 GND (power), T15 GND (power), T16 GND (power)
part M pins: N3 AGND (power), N5 AVDD (power), N24 AVDD (power), N26 AGND (power)
part N pins: A3 NC, A4 NC, A5 NC, A6 NC, A7 NC, A20 NC, A21 NC, A22 NC, A23 NC, A24 NC, AB26 NC, AC5 NC, AC25 NC, AD1 NC, AD4 NC, AD5 NC, AD6 NC, AD20 NC, AD23 NC, AD25 NC, AD26 NC, AE3 NC, AE4 NC, AE5 NC, AE6 NC, AE7 NC, AE20 NC, AE21 NC, AE22 NC, AF3 NC, AF4 NC, AF5 NC, AF6 NC, AF7 NC, AF8 NC, AF18 NC, AF19 NC, AF20 NC, AF21 NC, AF22 NC, AF24 NC, B3 NC, B4 NC, B5 NC, B6 NC, B7 NC, B20 NC, B21 NC, B22 NC, B23 NC, B24 NC, C4 NC, C5 NC, C6 NC, C21 NC, C22 NC, C23 NC, C25 NC, C26 NC, D1 NC, D2 NC, D5 NC, D6 NC, D22 NC, D25 NC, D26 NC

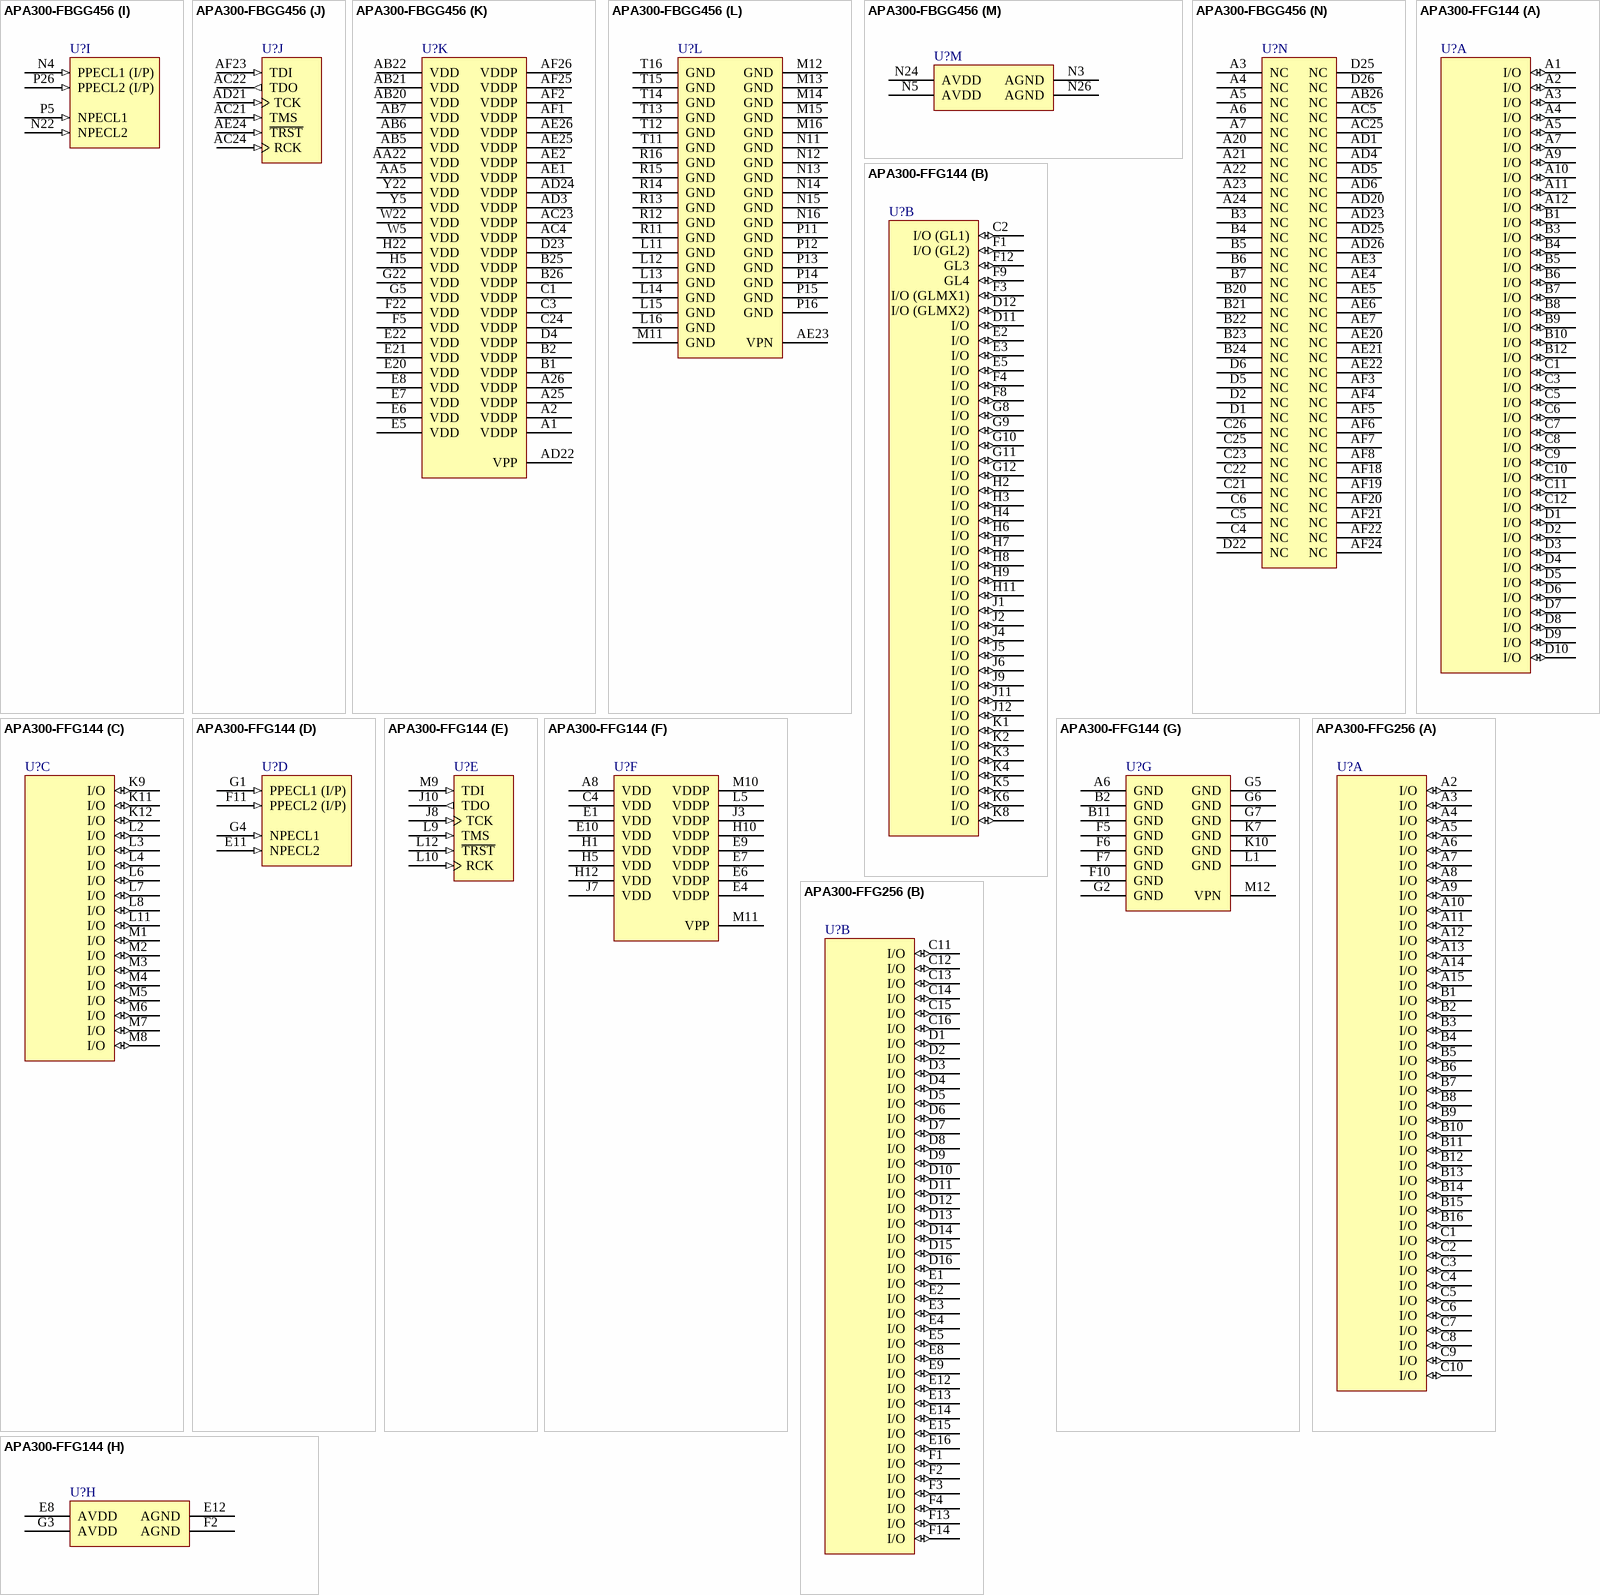
[diagram p43: symbols APA300-FBGG456 to APA300-FFG256]

## APA300-FBGG456
designator U?
ProASICPlus APA300 Flash FPGA, 290 User IOs, 456-Pin PBGA, Speed Grade F, Commercial Grade, Pb-Free; ComponentAvailability: Speed Grade F no longer suported, removed from v5.9, Jan-2010 datasheet.; Published: 16-Dec-2005; LatestRevisionDate: 11-Dec-2009; LatestRevisionNote: Updated to datasheet version 5.8 Jun-2009.; DatasheetVersion: v5.8, Jun-2009; PackageVersion: ver11.2, Nov-2009; PackageReference: BG456; Publisher: Altium Limited; PackageDescription: 456-Ball Plastic Ball Grid Array (BG456); Code_JEDEC: MS-034-BAR-2; ComponentLink1Description: ProASIC PLUS Datasheet; ComponentLink1URL: http://www.actel.com/documents/ProASICPLUS_DS.pdf; ComponentLink2Description: Package Mechanical Drawings; ComponentLink2URL: http://www.actel.com/documents/PckgMechDrwngs.pdf; ComponentLink3Description: ProASIC PLUS Documents; ComponentLink3URL: http://www.actel.com/products/proasicplus/docs.aspx; ComponentLink4Description: Actel.com Home; ComponentLink4URL: http://www.actel.com/
footprint BG456 (BGA, 456-Leads, Body 35x35mm, Pitch 1.27mm)
part A pins: A8 I/O (io), A9 I/O (io), A10 I/O (io), A11 I/O (io), A12 I/O (io), A13 I/O (io), A14 I/O (io), A15 I/O (io), A16 I/O (io), A17 I/O (io), A18 I/O (io), A19 I/O (io), B8 I/O (io), B9 I/O (io), B10 I/O (io), B11 I/O (io), B12 I/O (io), B13 I/O (io), B14 I/O (io), B15 I/O (io), B16 I/O (io), B17 I/O (io), B18 I/O (io), B19 I/O (io), C2 I/O (io), C7 I/O (io), C8 I/O (io), C9 I/O (io), C10 I/O (io), C11 I/O (io), C12 I/O (io), C13 I/O (io), C14 I/O (io), C15 I/O (io), C16 I/O (io), C17 I/O (io), C18 I/O (io), C19 I/O (io), C20 I/O (io), D3 I/O (io)
part B pins: D7 I/O (io), D8 I/O (io), D9 I/O (io), D10 I/O (io), D11 I/O (io), D12 I/O (io), D13 I/O (io), D14 I/O (io), D15 I/O (io), D16 I/O (io), D17 I/O (io), D18 I/O (io), D19 I/O (io), D20 I/O (io), D21 I/O (io), D24 I/O (io), E1 I/O (io), E2 I/O (io), E3 I/O (io), E4 I/O (io), E9 I/O (io), E10 I/O (io), E11 I/O (io), E12 I/O (io), E13 I/O (io), E14 I/O (io), E15 I/O (io), E16 I/O (io), E17 I/O (io), E18 I/O (io), E19 I/O (io), E23 I/O (io), E24 I/O (io), E25 I/O (io), E26 I/O (io), F1 I/O (io), F2 I/O (io), F3 I/O (io), F4 I/O (io), F23 I/O (io)
part C pins: F24 I/O (io), F25 I/O (io), F26 I/O (io), G1 I/O (io), G2 I/O (io), G3 I/O (io), G4 I/O (io), G23 I/O (io), G24 I/O (io), G25 I/O (io), G26 I/O (io), H1 I/O (io), H2 I/O (io), H3 I/O (io), H4 I/O (io), H23 I/O (io), H24 I/O (io), H25 I/O (io), H26 I/O (io), J1 I/O (io), J2 I/O (io), J3 I/O (io), J4 I/O (io), J5 I/O (io), J22 I/O (io), J23 I/O (io), J24 I/O (io), J25 I/O (io), J26 I/O (io), K1 I/O (io), K2 I/O (io), K3 I/O (io), K4 I/O (io), K5 I/O (io), K22 I/O (io), K23 I/O (io), K24 I/O (io), K25 I/O (io), K26 I/O (io), L1 I/O (io)
part D pins: L2 I/O (io), L3 I/O (io), L4 I/O (io), L5 I/O (io), L22 I/O (io), L23 I/O (io), L24 I/O (io), L25 I/O (io), L26 I/O (io), M1 GL1 (io), M2 GL2 (io), M3 I/O (io), M4 I/O (io), M5 I/O (io), M22 GL4 (io), M23 I/O (io), M24 I/O (io), M25 I/O (io), M26 I/O (io), N1 I/O (io), N2 I/O (GLMX1) (io), N23 GL3 (io), N25 I/O (GLMX2) (io), P1 I/O (io), P2 I/O (io), P3 I/O (io), P4 I/O (io), P22 I/O (io), P23 I/O (io), P24 I/O (io), P25 I/O (io), R1 I/O (io), R2 I/O (io), R3 I/O (io), R4 I/O (io), R5 I/O (io), R22 I/O (io), R23 I/O (io), R24 I/O (io), R25 I/O (io)
part E pins: R26 I/O (io), T1 I/O (io), T2 I/O (io), T3 I/O (io), T4 I/O (io), T5 I/O (io), T22 I/O (io), T23 I/O (io), T24 I/O (io), T25 I/O (io), T26 I/O (io), U1 I/O (io), U2 I/O (io), U3 I/O (io), U4 I/O (io), U5 I/O (io), U22 I/O (io), U23 I/O (io), U24 I/O (io), U25 I/O (io), U26 I/O (io), V1 I/O (io), V2 I/O (io), V3 I/O (io), V4 I/O (io), V5 I/O (io), V22 I/O (io), V23 I/O (io), V24 I/O (io), V25 I/O (io), V26 I/O (io), W1 I/O (io), W2 I/O (io), W3 I/O (io), W4 I/O (io), W23 I/O (io), W24 I/O (io), W25 I/O (io), W26 I/O (io), Y1 I/O (io)
part F pins: AA1 I/O (io), AA2 I/O (io), AA3 I/O (io), AA4 I/O (io), AA23 I/O (io), AA24 I/O (io), AA25 I/O (io), AA26 I/O (io), AB1 I/O (io), AB2 I/O (io), AB3 I/O (io), AB4 I/O (io), AB8 I/O (io), AB9 I/O (io), AB10 I/O (io), AB11 I/O (io), AB12 I/O (io), AB13 I/O (io), AB14 I/O (io), AB15 I/O (io), AB16 I/O (io), AB17 I/O (io), AB18 I/O (io), AB19 I/O (io), AB23 I/O (io), AB24 I/O (io), AB25 I/O (io), AC1 I/O (io), AC2 I/O (io), AC3 I/O (io), AC6 I/O (io), AC7 I/O (io), AC8 I/O (io), Y2 I/O (io), Y3 I/O (io), Y4 I/O (io), Y23 I/O (io), Y24 I/O (io), Y25 I/O (io), Y26 I/O (io)
part G pins: AC9 I/O (io), AC10 I/O (io), AC11 I/O (io), AC12 I/O (io), AC13 I/O (io), AC14 I/O (io), AC15 I/O (io), AC16 I/O (io), AC17 I/O (io), AC18 I/O (io), AC19 I/O (io), AC20 I/O (io), AC26 I/O (io), AD2 I/O (io), AD7 I/O (io), AD8 I/O (io), AD9 I/O (io), AD10 I/O (io), AD11 I/O (io), AD12 I/O (io), AD13 I/O (io), AD14 I/O (io), AD15 I/O (io), AD16 I/O (io), AD17 I/O (io), AD18 I/O (io), AD19 I/O (io), AE8 I/O (io), AE9 I/O (io), AE10 I/O (io), AE11 I/O (io), AE12 I/O (io), AE13 I/O (io), AE14 I/O (io), AE15 I/O (io), AE16 I/O (io), AE17 I/O (io), AE18 I/O (io), AE19 I/O (io), AF9 I/O (io)
part H pins: AF10 I/O (io), AF11 I/O (io), AF12 I/O (io), AF13 I/O (io), AF14 I/O (io), AF15 I/O (io), AF16 I/O (io), AF17 I/O (io)
part I pins: N4 PPECL1 (I/P) (in), N22 NPECL2 (in), P5 NPECL1 (in), P26 PPECL2 (I/P) (in)
part J pins: AC21 TMS (in), AC22 TDO (out), AC24 RCK (in), AD21 TCK (in), AE24 ~{TRST} (in), AF23 TDI (in)
part K pins: A1 VDDP (power), A2 VDDP (power), A25 VDDP (power), A26 VDDP (power), AA5 VDD (power), AA22 VDD (power), AB5 VDD (power), AB6 VDD (power), AB7 VDD (power), AB20 VDD (power), AB21 VDD (power), AB22 VDD (power), AC4 VDDP (power), AC23 VDDP (power), AD3 VDDP (power), AD22 VPP (power), AD24 VDDP (power), AE1 VDDP (power), AE2 VDDP (power), AE25 VDDP (power), AE26 VDDP (power), AF1 VDDP (power), AF2 VDDP (power), AF25 VDDP (power), AF26 VDDP (power), B1 VDDP (power), B2 VDDP (power), B25 VDDP (power), B26 VDDP (power), C1 VDDP (power), C3 VDDP (power), C24 VDDP (power), D4 VDDP (power), D23 VDDP (power), E5 VDD (power), E6 VDD (power), E7 VDD (power), E8 VDD (power), E20 VDD (power), E21 VDD (power), E22 VDD (power), F5 VDD (power), F22 VDD (power), G5 VDD (power), G22 VDD (power), H5 VDD (power), H22 VDD (power), W5 VDD (power), W22 VDD (power), Y5 VDD (power), Y22 VDD (power)
part L pins: AE23 VPN (power), L11 GND (power), L12 GND (power), L13 GND (power), L14 GND (power), L15 GND (power), L16 GND (power), M11 GND (power), M12 GND (power), M13 GND (power), M14 GND (power), M15 GND (power), M16 GND (power), N11 GND (power), N12 GND (power), N13 GND (power), N14 GND (power), N15 GND (power), N16 GND (power), P11 GND (power), P12 GND (power), P13 GND (power), P14 GND (power), P15 GND (power), P16 GND (power), R11 GND (power), R12 GND (power), R13 GND (power), R14 GND (power), R15 GND (power), R16 GND (power), T11 GND (power), T12 GND (power), T13 GND (power), T14 GND (power), T15 GND (power), T16 GND (power)
part M pins: N3 AGND (power), N5 AVDD (power), N24 AVDD (power), N26 AGND (power)
part N pins: A3 NC, A4 NC, A5 NC, A6 NC, A7 NC, A20 NC, A21 NC, A22 NC, A23 NC, A24 NC, AB26 NC, AC5 NC, AC25 NC, AD1 NC, AD4 NC, AD5 NC, AD6 NC, AD20 NC, AD23 NC, AD25 NC, AD26 NC, AE3 NC, AE4 NC, AE5 NC, AE6 NC, AE7 NC, AE20 NC, AE21 NC, AE22 NC, AF3 NC, AF4 NC, AF5 NC, AF6 NC, AF7 NC, AF8 NC, AF18 NC, AF19 NC, AF20 NC, AF21 NC, AF22 NC, AF24 NC, B3 NC, B4 NC, B5 NC, B6 NC, B7 NC, B20 NC, B21 NC, B22 NC, B23 NC, B24 NC, C4 NC, C5 NC, C6 NC, C21 NC, C22 NC, C23 NC, C25 NC, C26 NC, D1 NC, D2 NC, D5 NC, D6 NC, D22 NC, D25 NC, D26 NC

## APA300-FFG144
designator U?
ProASICPlus APA300 Flash FPGA, 100 User IOs, 114-Pin FBGA, Speed Grade F, Commercial Grade; ComponentAvailability: Speed Grade F no longer suported, removed from v5.9, Jan-2010 datasheet.; Published: 21-May-2003; LatestRevisionDate: 11-Dec-2009; LatestRevisionNote: Pins C2, F1 updated. Updated to datasheet version 5.8 Jun-2009.; DatasheetVersion: v5.8, Jun-2009; PackageVersion: ver11.2, Nov-2009; PackageReference: FG144; Publisher: Altium Limited; PackageDescription: 144-Ball Fine Pitch Plastic Ball Grid Array (FG144); Code_JEDEC: MO-192-DAD-1; ComponentLink1Description: ProASIC PLUS Datasheet; ComponentLink1URL: http://www.actel.com/documents/ProASICPLUS_DS.pdf; ComponentLink2Description: Package Mechanical Drawings; ComponentLink2URL: http://www.actel.com/documents/PckgMechDrwngs.pdf; ComponentLink3Description: ProASIC PLUS Documents; ComponentLink3URL: http://www.actel.com/products/proasicplus/docs.aspx; ComponentLink4Description: Actel.com Home; ComponentLink4URL: http://www.actel.com/
footprint FG144 (BGA, 144-Leads, Body 13x13mm, Pitch 1mm)
part A pins: A1 I/O (io), A2 I/O (io), A3 I/O (io), A4 I/O (io), A5 I/O (io), A7 I/O (io), A9 I/O (io), A10 I/O (io), A11 I/O (io), A12 I/O (io), B1 I/O (io), B3 I/O (io), B4 I/O (io), B5 I/O (io), B6 I/O (io), B7 I/O (io), B8 I/O (io), B9 I/O (io), B10 I/O (io), B12 I/O (io), C1 I/O (io), C3 I/O (io), C5 I/O (io), C6 I/O (io), C7 I/O (io), C8 I/O (io), C9 I/O (io), C10 I/O (io), C11 I/O (io), C12 I/O (io), D1 I/O (io), D2 I/O (io), D3 I/O (io), D4 I/O (io), D5 I/O (io), D6 I/O (io), D7 I/O (io), D8 I/O (io), D9 I/O (io), D10 I/O (io)
part B pins: C2 I/O (GL1) (io), D11 I/O (io), D12 I/O (GLMX2) (io), E2 I/O (io), E3 I/O (io), E5 I/O (io), F1 I/O (GL2) (io), F3 I/O (GLMX1) (io), F4 I/O (io), F8 I/O (io), F9 GL4 (io), F12 GL3 (io), G8 I/O (io), G9 I/O (io), G10 I/O (io), G11 I/O (io), G12 I/O (io), H2 I/O (io), H3 I/O (io), H4 I/O (io), H6 I/O (io), H7 I/O (io), H8 I/O (io), H9 I/O (io), H11 I/O (io), J1 I/O (io), J2 I/O (io), J4 I/O (io), J5 I/O (io), J6 I/O (io), J9 I/O (io), J11 I/O (io), J12 I/O (io), K1 I/O (io), K2 I/O (io), K3 I/O (io), K4 I/O (io), K5 I/O (io), K6 I/O (io), K8 I/O (io)
part C pins: K9 I/O (io), K11 I/O (io), K12 I/O (io), L2 I/O (io), L3 I/O (io), L4 I/O (io), L6 I/O (io), L7 I/O (io), L8 I/O (io), L11 I/O (io), M1 I/O (io), M2 I/O (io), M3 I/O (io), M4 I/O (io), M5 I/O (io), M6 I/O (io), M7 I/O (io), M8 I/O (io)
part D pins: E11 NPECL2 (in), F11 PPECL2 (I/P) (in), G1 PPECL1 (I/P) (in), G4 NPECL1 (in)
part E pins: J8 TCK (in), J10 TDO (out), L9 TMS (in), L10 RCK (in), L12 ~{TRST} (in), M9 TDI (in)
part F pins: A8 VDD (power), C4 VDD (power), E1 VDD (power), E4 VDDP (power), E6 VDDP (power), E7 VDDP (power), E9 VDDP (power), E10 VDD (power), H1 VDD (power), H5 VDD (power), H10 VDDP (power), H12 VDD (power), J3 VDDP (power), J7 VDD (power), L5 VDDP (power), M10 VDDP (power), M11 VPP (power)
part G pins: A6 GND (power), B2 GND (power), B11 GND (power), F5 GND (power), F6 GND (power), F7 GND (power), F10 GND (power), G2 GND (power), G5 GND (power), G6 GND (power), G7 GND (power), K7 GND (power), K10 GND (power), L1 GND (power), M12 VPN (power)
part H pins: E8 AVDD (power), E12 AGND (power), F2 AGND (power), G3 AVDD (power)

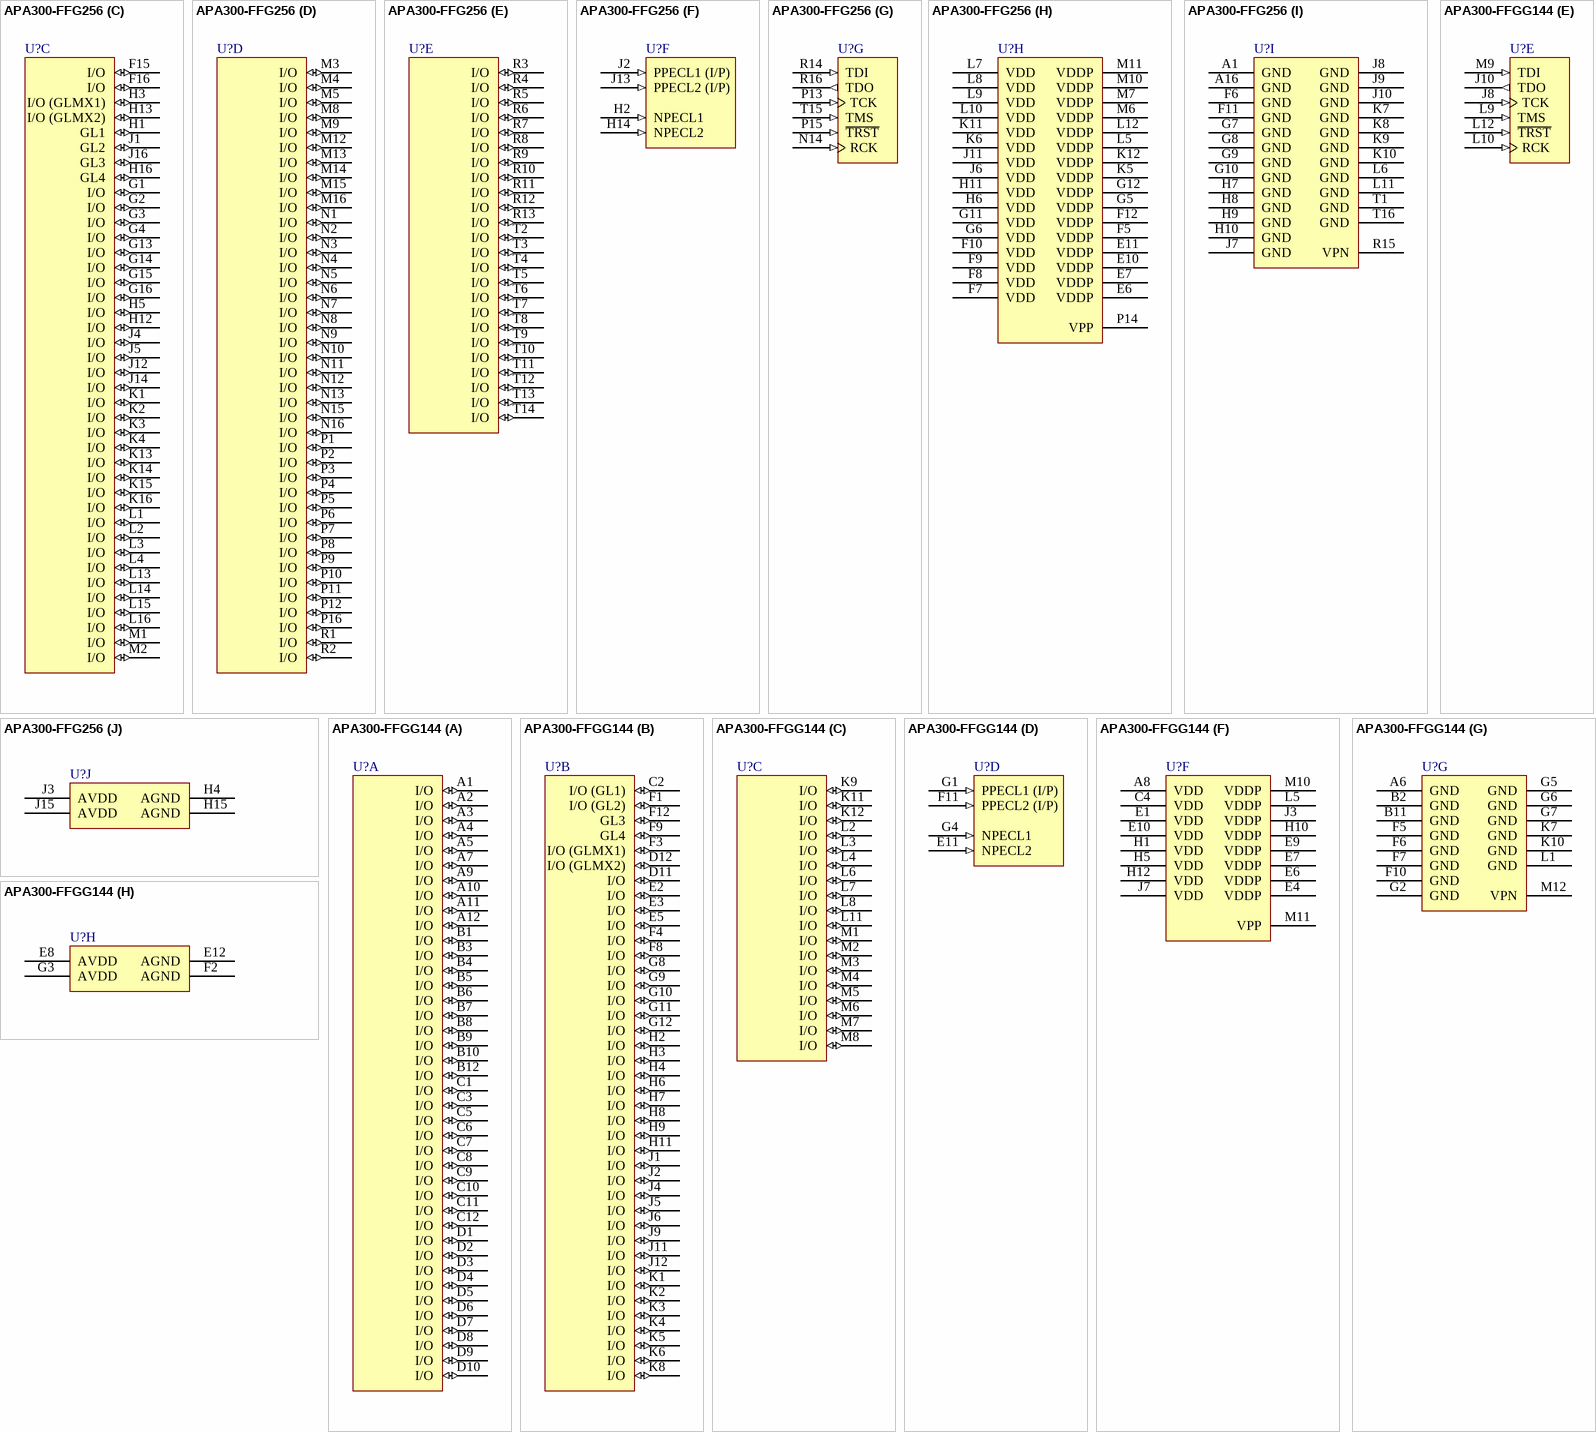
[diagram p44: symbols APA300-FFG256 to APA300-FFGG144]

## APA300-FFG256
designator U?
ProASICPlus APA300 Flash FPGA, 186 User IOs, 256-Pin FBGA, Speed Grade F, Commercial Grade; ComponentAvailability: Speed Grade F no longer suported, removed from v5.9, Jan-2010 datasheet.; Published: 21-May-2003; LatestRevisionDate: 11-Dec-2009; LatestRevisionNote: Updated to datasheet version 5.8 Jun-2009.; DatasheetVersion: v5.8, Jun-2009; PackageVersion: ver11.2, Nov-2009; PackageReference: FG256; Publisher: Altium Limited; PackageDescription: 256-Ball Fine Pitch Plastic Ball Grid Array 1.00 mm Pitch (FG256); Code_JEDEC: MO-192-DAF-1; ComponentLink1Description: ProASIC PLUS Datasheet; ComponentLink1URL: http://www.actel.com/documents/ProASICPLUS_DS.pdf; ComponentLink2Description: Package Mechanical Drawings; ComponentLink2URL: http://www.actel.com/documents/PckgMechDrwngs.pdf; ComponentLink3Description: ProASIC PLUS Documents; ComponentLink3URL: http://www.actel.com/products/proasicplus/docs.aspx; ComponentLink4Description: Actel.com Home; ComponentLink4URL: http://www.actel.com/
footprint FG256 (BGA, 256-Leads, Body 17x17mm, Pitch 1mm)
part A pins: A2 I/O (io), A3 I/O (io), A4 I/O (io), A5 I/O (io), A6 I/O (io), A7 I/O (io), A8 I/O (io), A9 I/O (io), A10 I/O (io), A11 I/O (io), A12 I/O (io), A13 I/O (io), A14 I/O (io), A15 I/O (io), B1 I/O (io), B2 I/O (io), B3 I/O (io), B4 I/O (io), B5 I/O (io), B6 I/O (io), B7 I/O (io), B8 I/O (io), B9 I/O (io), B10 I/O (io), B11 I/O (io), B12 I/O (io), B13 I/O (io), B14 I/O (io), B15 I/O (io), B16 I/O (io), C1 I/O (io), C2 I/O (io), C3 I/O (io), C4 I/O (io), C5 I/O (io), C6 I/O (io), C7 I/O (io), C8 I/O (io), C9 I/O (io), C10 I/O (io)
part B pins: C11 I/O (io), C12 I/O (io), C13 I/O (io), C14 I/O (io), C15 I/O (io), C16 I/O (io), D1 I/O (io), D2 I/O (io), D3 I/O (io), D4 I/O (io), D5 I/O (io), D6 I/O (io), D7 I/O (io), D8 I/O (io), D9 I/O (io), D10 I/O (io), D11 I/O (io), D12 I/O (io), D13 I/O (io), D14 I/O (io), D15 I/O (io), D16 I/O (io), E1 I/O (io), E2 I/O (io), E3 I/O (io), E4 I/O (io), E5 I/O (io), E8 I/O (io), E9 I/O (io), E12 I/O (io), E13 I/O (io), E14 I/O (io), E15 I/O (io), E16 I/O (io), F1 I/O (io), F2 I/O (io), F3 I/O (io), F4 I/O (io), F13 I/O (io), F14 I/O (io)
part C pins: F15 I/O (io), F16 I/O (io), G1 I/O (io), G2 I/O (io), G3 I/O (io), G4 I/O (io), G13 I/O (io), G14 I/O (io), G15 I/O (io), G16 I/O (io), H1 GL1 (io), H3 I/O (GLMX1) (io), H5 I/O (io), H12 I/O (io), H13 I/O (GLMX2) (io), H16 GL4 (io), J1 GL2 (io), J4 I/O (io), J5 I/O (io), J12 I/O (io), J14 I/O (io), J16 GL3 (io), K1 I/O (io), K2 I/O (io), K3 I/O (io), K4 I/O (io), K13 I/O (io), K14 I/O (io), K15 I/O (io), K16 I/O (io), L1 I/O (io), L2 I/O (io), L3 I/O (io), L4 I/O (io), L13 I/O (io), L14 I/O (io), L15 I/O (io), L16 I/O (io), M1 I/O (io), M2 I/O (io)
part D pins: M3 I/O (io), M4 I/O (io), M5 I/O (io), M8 I/O (io), M9 I/O (io), M12 I/O (io), M13 I/O (io), M14 I/O (io), M15 I/O (io), M16 I/O (io), N1 I/O (io), N2 I/O (io), N3 I/O (io), N4 I/O (io), N5 I/O (io), N6 I/O (io), N7 I/O (io), N8 I/O (io), N9 I/O (io), N10 I/O (io), N11 I/O (io), N12 I/O (io), N13 I/O (io), N15 I/O (io), N16 I/O (io), P1 I/O (io), P2 I/O (io), P3 I/O (io), P4 I/O (io), P5 I/O (io), P6 I/O (io), P7 I/O (io), P8 I/O (io), P9 I/O (io), P10 I/O (io), P11 I/O (io), P12 I/O (io), P16 I/O (io), R1 I/O (io), R2 I/O (io)
part E pins: R3 I/O (io), R4 I/O (io), R5 I/O (io), R6 I/O (io), R7 I/O (io), R8 I/O (io), R9 I/O (io), R10 I/O (io), R11 I/O (io), R12 I/O (io), R13 I/O (io), T2 I/O (io), T3 I/O (io), T4 I/O (io), T5 I/O (io), T6 I/O (io), T7 I/O (io), T8 I/O (io), T9 I/O (io), T10 I/O (io), T11 I/O (io), T12 I/O (io), T13 I/O (io), T14 I/O (io)
part F pins: H2 NPECL1 (in), H14 NPECL2 (in), J2 PPECL1 (I/P) (in), J13 PPECL2 (I/P) (in)
part G pins: N14 RCK (in), P13 TCK (in), P15 ~{TRST} (in), R14 TDI (in), R16 TDO (out), T15 TMS (in)
part H pins: E6 VDDP (power), E7 VDDP (power), E10 VDDP (power), E11 VDDP (power), F5 VDDP (power), F7 VDD (power), F8 VDD (power), F9 VDD (power), F10 VDD (power), F12 VDDP (power), G5 VDDP (power), G6 VDD (power), G11 VDD (power), G12 VDDP (power), H6 VDD (power), H11 VDD (power), J6 VDD (power), J11 VDD (power), K5 VDDP (power), K6 VDD (power), K11 VDD (power), K12 VDDP (power), L5 VDDP (power), L7 VDD (power), L8 VDD (power), L9 VDD (power), L10 VDD (power), L12 VDDP (power), M6 VDDP (power), M7 VDDP (power), M10 VDDP (power), M11 VDDP (power), P14 VPP (power)
part I pins: A1 GND (power), A16 GND (power), F6 GND (power), F11 GND (power), G7 GND (power), G8 GND (power), G9 GND (power), G10 GND (power), H7 GND (power), H8 GND (power), H9 GND (power), H10 GND (power), J7 GND (power), J8 GND (power), J9 GND (power), J10 GND (power), K7 GND (power), K8 GND (power), K9 GND (power), K10 GND (power), L6 GND (power), L11 GND (power), R15 VPN (power), T1 GND (power), T16 GND (power)
part J pins: H4 AGND (power), H15 AGND (power), J3 AVDD (power), J15 AVDD (power)

## APA300-FFGG144
designator U?
ProASICPlus APA300 Flash FPGA, 100 User IOs, 114-Pin FBGA, Speed Grade F, Commercial Grade, Pb-Free; ComponentAvailability: Speed Grade F no longer suported, removed from v5.9, Jan-2010 datasheet.; Published: 16-Dec-2005; LatestRevisionDate: 11-Dec-2009; LatestRevisionNote: Pins C2, F1 updated. Updated to datasheet version 5.8 Jun-2009.; DatasheetVersion: v5.8, Jun-2009; PackageVersion: ver11.2, Nov-2009; PackageReference: FG144; Publisher: Altium Limited; PackageDescription: 144-Ball Fine Pitch Plastic Ball Grid Array (FG144); Code_JEDEC: MO-192-DAD-1; ComponentLink1Description: ProASIC PLUS Datasheet; ComponentLink1URL: http://www.actel.com/documents/ProASICPLUS_DS.pdf; ComponentLink2Description: Package Mechanical Drawings; ComponentLink2URL: http://www.actel.com/documents/PckgMechDrwngs.pdf; ComponentLink3Description: ProASIC PLUS Documents; ComponentLink3URL: http://www.actel.com/products/proasicplus/docs.aspx; ComponentLink4Description: Actel.com Home; ComponentLink4URL: http://www.actel.com/
footprint FG144 (BGA, 144-Leads, Body 13x13mm, Pitch 1mm)
part A pins: A1 I/O (io), A2 I/O (io), A3 I/O (io), A4 I/O (io), A5 I/O (io), A7 I/O (io), A9 I/O (io), A10 I/O (io), A11 I/O (io), A12 I/O (io), B1 I/O (io), B3 I/O (io), B4 I/O (io), B5 I/O (io), B6 I/O (io), B7 I/O (io), B8 I/O (io), B9 I/O (io), B10 I/O (io), B12 I/O (io), C1 I/O (io), C3 I/O (io), C5 I/O (io), C6 I/O (io), C7 I/O (io), C8 I/O (io), C9 I/O (io), C10 I/O (io), C11 I/O (io), C12 I/O (io), D1 I/O (io), D2 I/O (io), D3 I/O (io), D4 I/O (io), D5 I/O (io), D6 I/O (io), D7 I/O (io), D8 I/O (io), D9 I/O (io), D10 I/O (io)
part B pins: C2 I/O (GL1) (io), D11 I/O (io), D12 I/O (GLMX2) (io), E2 I/O (io), E3 I/O (io), E5 I/O (io), F1 I/O (GL2) (io), F3 I/O (GLMX1) (io), F4 I/O (io), F8 I/O (io), F9 GL4 (io), F12 GL3 (io), G8 I/O (io), G9 I/O (io), G10 I/O (io), G11 I/O (io), G12 I/O (io), H2 I/O (io), H3 I/O (io), H4 I/O (io), H6 I/O (io), H7 I/O (io), H8 I/O (io), H9 I/O (io), H11 I/O (io), J1 I/O (io), J2 I/O (io), J4 I/O (io), J5 I/O (io), J6 I/O (io), J9 I/O (io), J11 I/O (io), J12 I/O (io), K1 I/O (io), K2 I/O (io), K3 I/O (io), K4 I/O (io), K5 I/O (io), K6 I/O (io), K8 I/O (io)
part C pins: K9 I/O (io), K11 I/O (io), K12 I/O (io), L2 I/O (io), L3 I/O (io), L4 I/O (io), L6 I/O (io), L7 I/O (io), L8 I/O (io), L11 I/O (io), M1 I/O (io), M2 I/O (io), M3 I/O (io), M4 I/O (io), M5 I/O (io), M6 I/O (io), M7 I/O (io), M8 I/O (io)
part D pins: E11 NPECL2 (in), F11 PPECL2 (I/P) (in), G1 PPECL1 (I/P) (in), G4 NPECL1 (in)
part E pins: J8 TCK (in), J10 TDO (out), L9 TMS (in), L10 RCK (in), L12 ~{TRST} (in), M9 TDI (in)
part F pins: A8 VDD (power), C4 VDD (power), E1 VDD (power), E4 VDDP (power), E6 VDDP (power), E7 VDDP (power), E9 VDDP (power), E10 VDD (power), H1 VDD (power), H5 VDD (power), H10 VDDP (power), H12 VDD (power), J3 VDDP (power), J7 VDD (power), L5 VDDP (power), M10 VDDP (power), M11 VPP (power)
part G pins: A6 GND (power), B2 GND (power), B11 GND (power), F5 GND (power), F6 GND (power), F7 GND (power), F10 GND (power), G2 GND (power), G5 GND (power), G6 GND (power), G7 GND (power), K7 GND (power), K10 GND (power), L1 GND (power), M12 VPN (power)
part H pins: E8 AVDD (power), E12 AGND (power), F2 AGND (power), G3 AVDD (power)

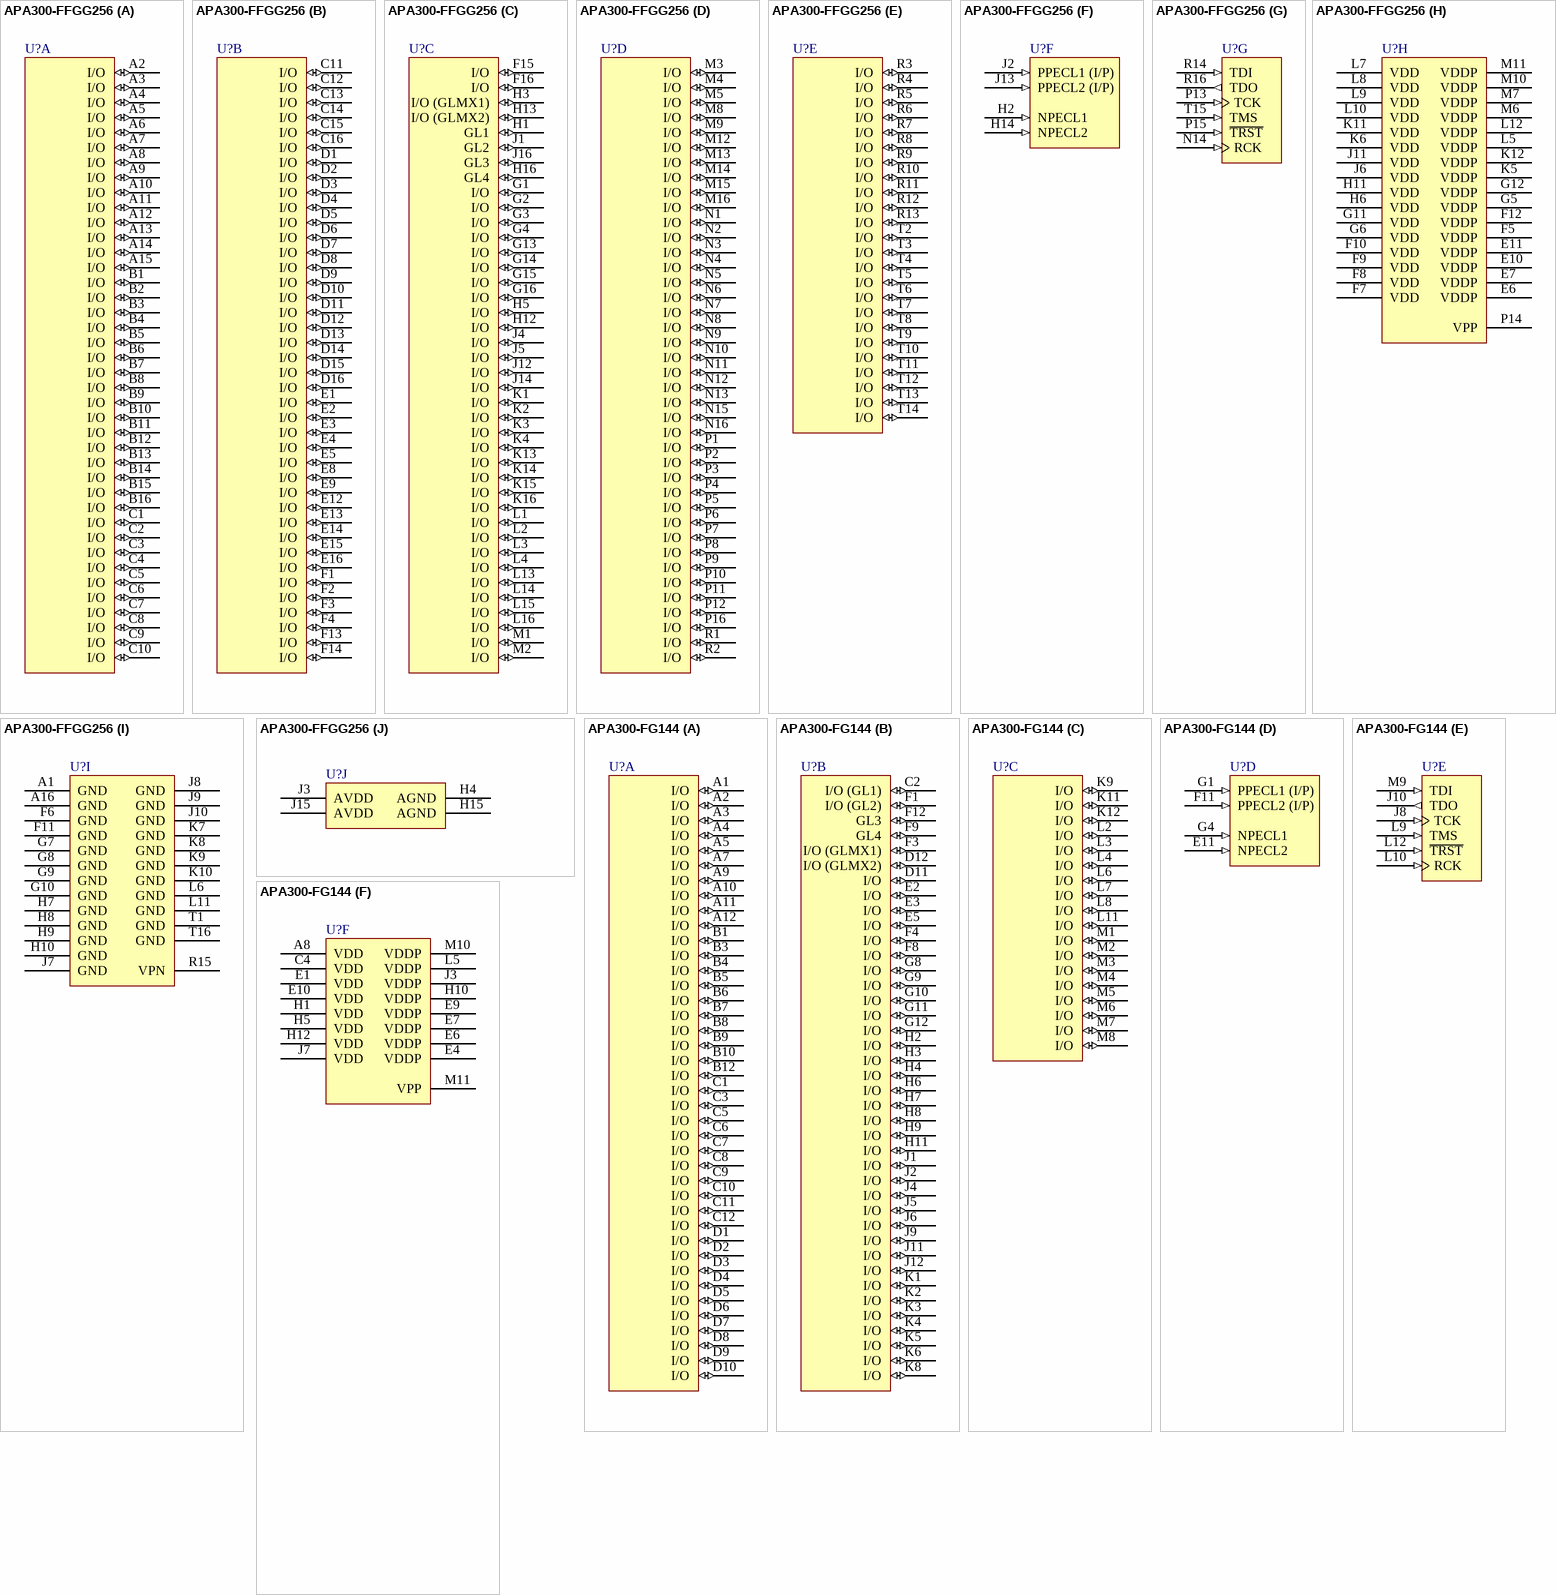
[diagram p45: symbols APA300-FFGG256 to APA300-FG144]

## APA300-FFGG256
designator U?
ProASICPlus APA300 Flash FPGA, 186 User IOs, 256-Pin FBGA, Speed Grade F, Commercial Grade, Pb-Free; ComponentAvailability: Speed Grade F no longer suported, removed from v5.9, Jan-2010 datasheet.; Published: 16-Dec-2005; LatestRevisionDate: 11-Dec-2009; LatestRevisionNote: Updated to datasheet version 5.8 Jun-2009.; DatasheetVersion: v5.8, Jun-2009; PackageVersion: ver11.2, Nov-2009; PackageReference: FG256; Publisher: Altium Limited; PackageDescription: 256-Ball Fine Pitch Plastic Ball Grid Array 1.00 mm Pitch (FG256); Code_JEDEC: MO-192-DAF-1; ComponentLink1Description: ProASIC PLUS Datasheet; ComponentLink1URL: http://www.actel.com/documents/ProASICPLUS_DS.pdf; ComponentLink2Description: Package Mechanical Drawings; ComponentLink2URL: http://www.actel.com/documents/PckgMechDrwngs.pdf; ComponentLink3Description: ProASIC PLUS Documents; ComponentLink3URL: http://www.actel.com/products/proasicplus/docs.aspx; ComponentLink4Description: Actel.com Home; ComponentLink4URL: http://www.actel.com/
footprint FG256 (BGA, 256-Leads, Body 17x17mm, Pitch 1mm)
part A pins: A2 I/O (io), A3 I/O (io), A4 I/O (io), A5 I/O (io), A6 I/O (io), A7 I/O (io), A8 I/O (io), A9 I/O (io), A10 I/O (io), A11 I/O (io), A12 I/O (io), A13 I/O (io), A14 I/O (io), A15 I/O (io), B1 I/O (io), B2 I/O (io), B3 I/O (io), B4 I/O (io), B5 I/O (io), B6 I/O (io), B7 I/O (io), B8 I/O (io), B9 I/O (io), B10 I/O (io), B11 I/O (io), B12 I/O (io), B13 I/O (io), B14 I/O (io), B15 I/O (io), B16 I/O (io), C1 I/O (io), C2 I/O (io), C3 I/O (io), C4 I/O (io), C5 I/O (io), C6 I/O (io), C7 I/O (io), C8 I/O (io), C9 I/O (io), C10 I/O (io)
part B pins: C11 I/O (io), C12 I/O (io), C13 I/O (io), C14 I/O (io), C15 I/O (io), C16 I/O (io), D1 I/O (io), D2 I/O (io), D3 I/O (io), D4 I/O (io), D5 I/O (io), D6 I/O (io), D7 I/O (io), D8 I/O (io), D9 I/O (io), D10 I/O (io), D11 I/O (io), D12 I/O (io), D13 I/O (io), D14 I/O (io), D15 I/O (io), D16 I/O (io), E1 I/O (io), E2 I/O (io), E3 I/O (io), E4 I/O (io), E5 I/O (io), E8 I/O (io), E9 I/O (io), E12 I/O (io), E13 I/O (io), E14 I/O (io), E15 I/O (io), E16 I/O (io), F1 I/O (io), F2 I/O (io), F3 I/O (io), F4 I/O (io), F13 I/O (io), F14 I/O (io)
part C pins: F15 I/O (io), F16 I/O (io), G1 I/O (io), G2 I/O (io), G3 I/O (io), G4 I/O (io), G13 I/O (io), G14 I/O (io), G15 I/O (io), G16 I/O (io), H1 GL1 (io), H3 I/O (GLMX1) (io), H5 I/O (io), H12 I/O (io), H13 I/O (GLMX2) (io), H16 GL4 (io), J1 GL2 (io), J4 I/O (io), J5 I/O (io), J12 I/O (io), J14 I/O (io), J16 GL3 (io), K1 I/O (io), K2 I/O (io), K3 I/O (io), K4 I/O (io), K13 I/O (io), K14 I/O (io), K15 I/O (io), K16 I/O (io), L1 I/O (io), L2 I/O (io), L3 I/O (io), L4 I/O (io), L13 I/O (io), L14 I/O (io), L15 I/O (io), L16 I/O (io), M1 I/O (io), M2 I/O (io)
part D pins: M3 I/O (io), M4 I/O (io), M5 I/O (io), M8 I/O (io), M9 I/O (io), M12 I/O (io), M13 I/O (io), M14 I/O (io), M15 I/O (io), M16 I/O (io), N1 I/O (io), N2 I/O (io), N3 I/O (io), N4 I/O (io), N5 I/O (io), N6 I/O (io), N7 I/O (io), N8 I/O (io), N9 I/O (io), N10 I/O (io), N11 I/O (io), N12 I/O (io), N13 I/O (io), N15 I/O (io), N16 I/O (io), P1 I/O (io), P2 I/O (io), P3 I/O (io), P4 I/O (io), P5 I/O (io), P6 I/O (io), P7 I/O (io), P8 I/O (io), P9 I/O (io), P10 I/O (io), P11 I/O (io), P12 I/O (io), P16 I/O (io), R1 I/O (io), R2 I/O (io)
part E pins: R3 I/O (io), R4 I/O (io), R5 I/O (io), R6 I/O (io), R7 I/O (io), R8 I/O (io), R9 I/O (io), R10 I/O (io), R11 I/O (io), R12 I/O (io), R13 I/O (io), T2 I/O (io), T3 I/O (io), T4 I/O (io), T5 I/O (io), T6 I/O (io), T7 I/O (io), T8 I/O (io), T9 I/O (io), T10 I/O (io), T11 I/O (io), T12 I/O (io), T13 I/O (io), T14 I/O (io)
part F pins: H2 NPECL1 (in), H14 NPECL2 (in), J2 PPECL1 (I/P) (in), J13 PPECL2 (I/P) (in)
part G pins: N14 RCK (in), P13 TCK (in), P15 ~{TRST} (in), R14 TDI (in), R16 TDO (out), T15 TMS (in)
part H pins: E6 VDDP (power), E7 VDDP (power), E10 VDDP (power), E11 VDDP (power), F5 VDDP (power), F7 VDD (power), F8 VDD (power), F9 VDD (power), F10 VDD (power), F12 VDDP (power), G5 VDDP (power), G6 VDD (power), G11 VDD (power), G12 VDDP (power), H6 VDD (power), H11 VDD (power), J6 VDD (power), J11 VDD (power), K5 VDDP (power), K6 VDD (power), K11 VDD (power), K12 VDDP (power), L5 VDDP (power), L7 VDD (power), L8 VDD (power), L9 VDD (power), L10 VDD (power), L12 VDDP (power), M6 VDDP (power), M7 VDDP (power), M10 VDDP (power), M11 VDDP (power), P14 VPP (power)
part I pins: A1 GND (power), A16 GND (power), F6 GND (power), F11 GND (power), G7 GND (power), G8 GND (power), G9 GND (power), G10 GND (power), H7 GND (power), H8 GND (power), H9 GND (power), H10 GND (power), J7 GND (power), J8 GND (power), J9 GND (power), J10 GND (power), K7 GND (power), K8 GND (power), K9 GND (power), K10 GND (power), L6 GND (power), L11 GND (power), R15 VPN (power), T1 GND (power), T16 GND (power)
part J pins: H4 AGND (power), H15 AGND (power), J3 AVDD (power), J15 AVDD (power)

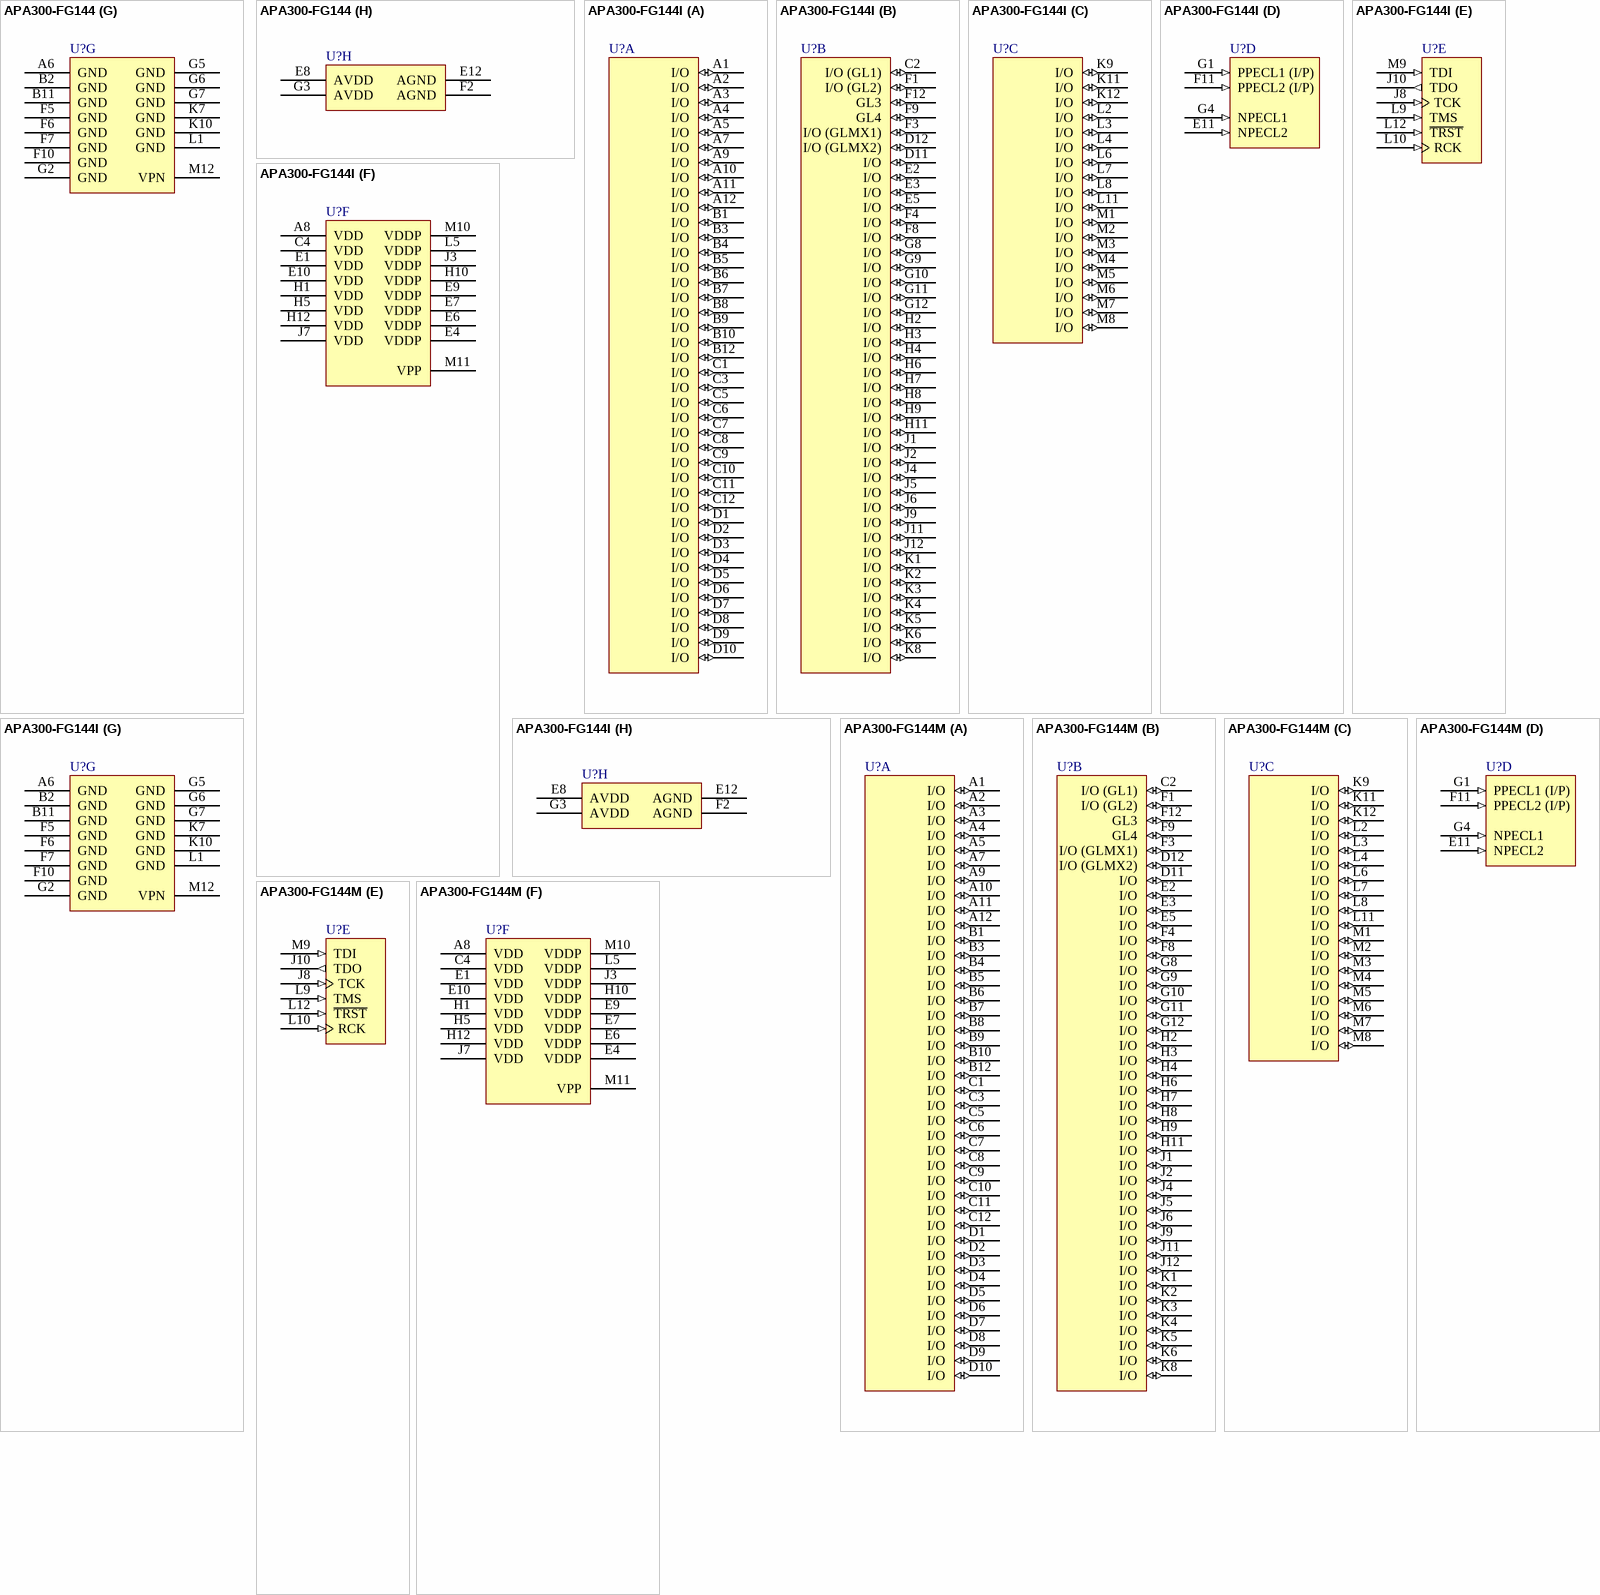
[diagram p46: symbols APA300-FG144 to APA300-FG144M]